# Altium integrated library Actel 42MX.IntLib: 261 symbols (part 1 of 17)
Pins are listed as number, name and electrical type; pins without a type are passive.

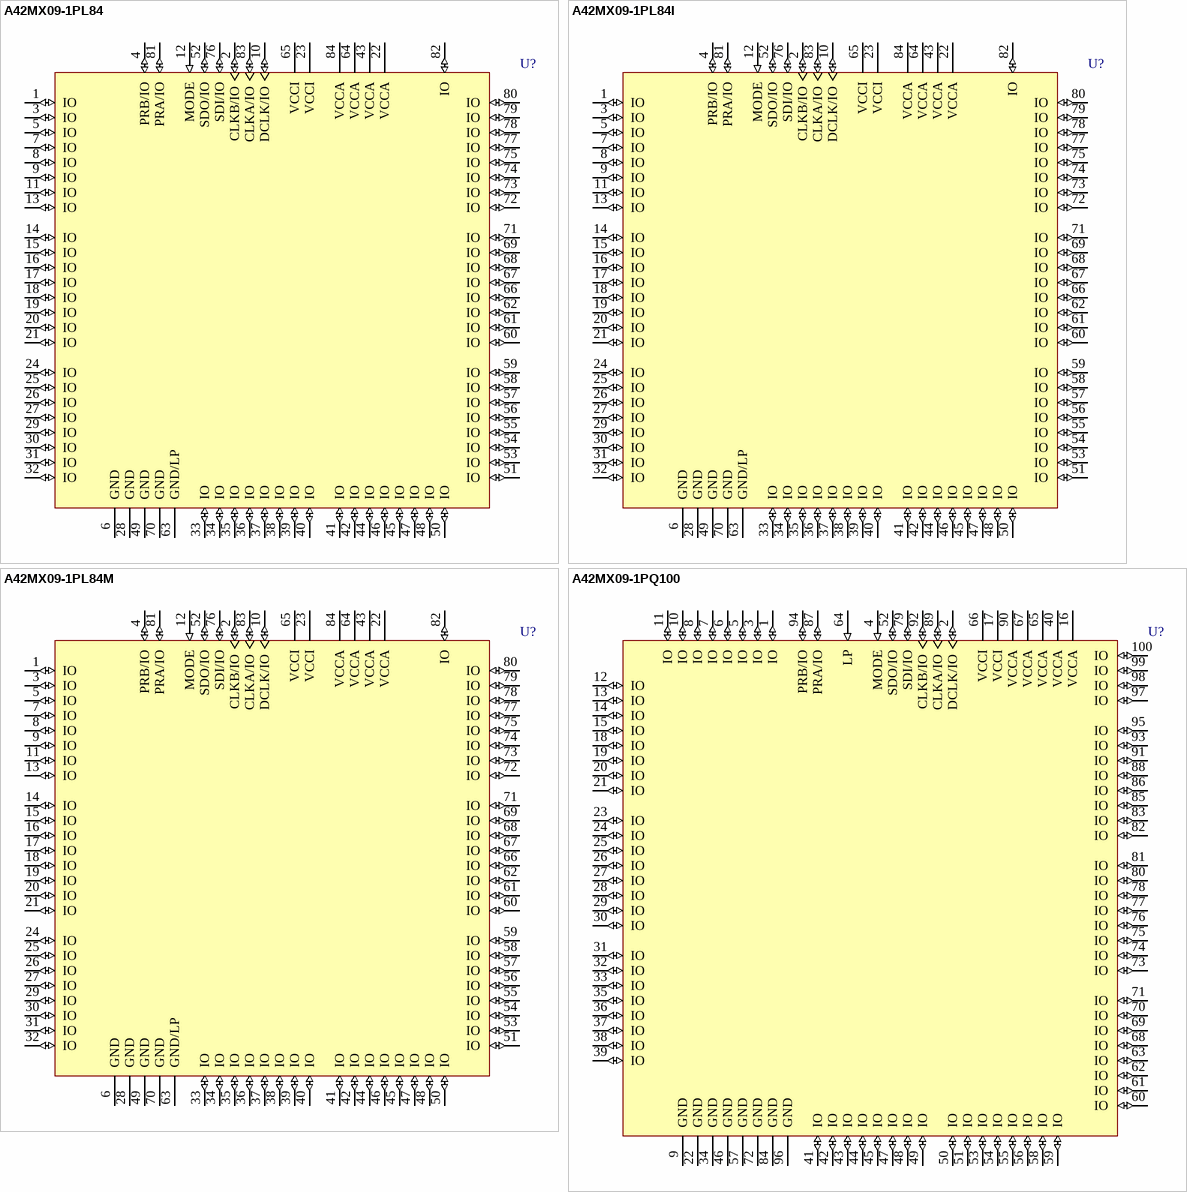
[diagram p0: symbols A42MX09-1PL84 to A42MX09-1PQ100]

## A42MX09-1PL84
designator U?
A42MX09 FPGA, 72 User IOs, 84-Pin PLCC, Speed Grade 1, Commercial Grade; Published: 21-May-2003; LatestRevisionDate: 13-Apr-2006; LatestRevisionNote: IPC-7351 Footprint Added.; DatasheetVersion: v6.0 Jan-2004; PackageVersion: v9.2, Apr-2006; PackageReference: PL84; Publisher: Altium Limited; PackageDescription: 84-Pin Plastic Leaded Chip Carrier (PL84); Code_JEDEC: MS-018-AF; Code_IPC: PLCC-84; ComponentLink1Description: Manufacturer Link; ComponentLink1URL: http://www.actel.com/products/mx/index.html; ComponentLink2Description: Datasheet; ComponentLink2URL: http://www.actel.com/documents/MXDS.pdf
footprint PL84_N (Leaded Chip Carrier, 84-Leads, Body 29.3x29.3mm, Pitch 1.27mm, IPC Medium Density)
footprint PL84_L (Leaded Chip Carrier, 84-Leads, Body 29.3x29.3mm, Pitch 1.27mm, IPC High Density)
footprint PL84_M (Leaded Chip Carrier, 84-Leads, Body 29.3x29.3mm, Pitch 1.27mm, IPC Low Density)
3D model A42MX09-PL84 (84-Pin Plastic Leaded Chip Carrier (PL84))
pins: 1 IO (io), 2 CLKB/IO (io), 3 IO (io), 4 PRB/IO (io), 5 IO (io), 6 GND (power), 7 IO (io), 8 IO (io), 9 IO (io), 10 DCLK/IO (io), 11 IO (io), 12 MODE (in), 13 IO (io), 14 IO (io), 15 IO (io), 16 IO (io), 17 IO (io), 18 IO (io), 19 IO (io), 20 IO (io), 21 IO (io), 22 VCCA (power), 23 VCCI (power), 24 IO (io), 25 IO (io), 26 IO (io), 27 IO (io), 28 GND (power), 29 IO (io), 30 IO (io), 31 IO (io), 32 IO (io), 33 IO (io), 34 IO (io), 35 IO (io), 36 IO (io), 37 IO (io), 38 IO (io), 39 IO (io), 40 IO (io), 41 IO (io), 42 IO (io), 43 VCCA (power), 44 IO (io), 45 IO (io), 46 IO (io), 47 IO (io), 48 IO (io), 49 GND (power), 50 IO (io), 51 IO (io), 52 SDO/IO (io), 53 IO (io), 54 IO (io), 55 IO (io), 56 IO (io), 57 IO (io), 58 IO (io), 59 IO (io), 60 IO (io), 61 IO (io), 62 IO (io), 63 GND/LP (power), 64 VCCA (power), 65 VCCI (power), 66 IO (io), 67 IO (io), 68 IO (io), 69 IO (io), 70 GND (power), 71 IO (io), 72 IO (io), 73 IO (io), 74 IO (io), 75 IO (io), 76 SDI/IO (io), 77 IO (io), 78 IO (io), 79 IO (io), 80 IO (io), 81 PRA/IO (io), 82 IO (io), 83 CLKA/IO (io), 84 VCCA (power)

## A42MX09-1PL84I
designator U?
A42MX09 FPGA, 72 User IOs, 84-Pin PLCC, Speed Grade 1, Industrial Grade; Published: 21-May-2003; LatestRevisionDate: 13-Apr-2006; LatestRevisionNote: IPC-7351 Footprint Added.; DatasheetVersion: v6.0 Jan-2004; PackageVersion: v9.2, Apr-2006; PackageReference: PL84; Publisher: Altium Limited; PackageDescription: 84-Pin Plastic Leaded Chip Carrier (PL84); Code_JEDEC: MS-018-AF; Code_IPC: PLCC-84; ComponentLink1Description: Manufacturer Link; ComponentLink1URL: http://www.actel.com/products/mx/index.html; ComponentLink2Description: Datasheet; ComponentLink2URL: http://www.actel.com/documents/MXDS.pdf
footprint PL84_N (Leaded Chip Carrier, 84-Leads, Body 29.3x29.3mm, Pitch 1.27mm, IPC Medium Density)
footprint PL84_L (Leaded Chip Carrier, 84-Leads, Body 29.3x29.3mm, Pitch 1.27mm, IPC High Density)
footprint PL84_M (Leaded Chip Carrier, 84-Leads, Body 29.3x29.3mm, Pitch 1.27mm, IPC Low Density)
3D model A42MX09-PL84 (84-Pin Plastic Leaded Chip Carrier (PL84))
pins: 1 IO (io), 2 CLKB/IO (io), 3 IO (io), 4 PRB/IO (io), 5 IO (io), 6 GND (power), 7 IO (io), 8 IO (io), 9 IO (io), 10 DCLK/IO (io), 11 IO (io), 12 MODE (in), 13 IO (io), 14 IO (io), 15 IO (io), 16 IO (io), 17 IO (io), 18 IO (io), 19 IO (io), 20 IO (io), 21 IO (io), 22 VCCA (power), 23 VCCI (power), 24 IO (io), 25 IO (io), 26 IO (io), 27 IO (io), 28 GND (power), 29 IO (io), 30 IO (io), 31 IO (io), 32 IO (io), 33 IO (io), 34 IO (io), 35 IO (io), 36 IO (io), 37 IO (io), 38 IO (io), 39 IO (io), 40 IO (io), 41 IO (io), 42 IO (io), 43 VCCA (power), 44 IO (io), 45 IO (io), 46 IO (io), 47 IO (io), 48 IO (io), 49 GND (power), 50 IO (io), 51 IO (io), 52 SDO/IO (io), 53 IO (io), 54 IO (io), 55 IO (io), 56 IO (io), 57 IO (io), 58 IO (io), 59 IO (io), 60 IO (io), 61 IO (io), 62 IO (io), 63 GND/LP (power), 64 VCCA (power), 65 VCCI (power), 66 IO (io), 67 IO (io), 68 IO (io), 69 IO (io), 70 GND (power), 71 IO (io), 72 IO (io), 73 IO (io), 74 IO (io), 75 IO (io), 76 SDI/IO (io), 77 IO (io), 78 IO (io), 79 IO (io), 80 IO (io), 81 PRA/IO (io), 82 IO (io), 83 CLKA/IO (io), 84 VCCA (power)

## A42MX09-1PL84M
designator U?
A42MX09 FPGA, 72 User IOs, 84-Pin PLCC, Speed Grade 1, Military Grade; Published: 21-May-2003; LatestRevisionDate: 13-Apr-2006; LatestRevisionNote: IPC-7351 Footprint Added.; DatasheetVersion: v6.0 Jan-2004; PackageVersion: v9.2, Apr-2006; PackageReference: PL84; Publisher: Altium Limited; PackageDescription: 84-Pin Plastic Leaded Chip Carrier (PL84); Code_JEDEC: MS-018-AF; Code_IPC: PLCC-84; ComponentLink1Description: Manufacturer Link; ComponentLink1URL: http://www.actel.com/products/mx/index.html; ComponentLink2Description: Datasheet; ComponentLink2URL: http://www.actel.com/documents/MXDS.pdf
footprint PL84_N (Leaded Chip Carrier, 84-Leads, Body 29.3x29.3mm, Pitch 1.27mm, IPC Medium Density)
footprint PL84_L (Leaded Chip Carrier, 84-Leads, Body 29.3x29.3mm, Pitch 1.27mm, IPC High Density)
footprint PL84_M (Leaded Chip Carrier, 84-Leads, Body 29.3x29.3mm, Pitch 1.27mm, IPC Low Density)
3D model A42MX09-PL84 (84-Pin Plastic Leaded Chip Carrier (PL84))
pins: 1 IO (io), 2 CLKB/IO (io), 3 IO (io), 4 PRB/IO (io), 5 IO (io), 6 GND (power), 7 IO (io), 8 IO (io), 9 IO (io), 10 DCLK/IO (io), 11 IO (io), 12 MODE (in), 13 IO (io), 14 IO (io), 15 IO (io), 16 IO (io), 17 IO (io), 18 IO (io), 19 IO (io), 20 IO (io), 21 IO (io), 22 VCCA (power), 23 VCCI (power), 24 IO (io), 25 IO (io), 26 IO (io), 27 IO (io), 28 GND (power), 29 IO (io), 30 IO (io), 31 IO (io), 32 IO (io), 33 IO (io), 34 IO (io), 35 IO (io), 36 IO (io), 37 IO (io), 38 IO (io), 39 IO (io), 40 IO (io), 41 IO (io), 42 IO (io), 43 VCCA (power), 44 IO (io), 45 IO (io), 46 IO (io), 47 IO (io), 48 IO (io), 49 GND (power), 50 IO (io), 51 IO (io), 52 SDO/IO (io), 53 IO (io), 54 IO (io), 55 IO (io), 56 IO (io), 57 IO (io), 58 IO (io), 59 IO (io), 60 IO (io), 61 IO (io), 62 IO (io), 63 GND/LP (power), 64 VCCA (power), 65 VCCI (power), 66 IO (io), 67 IO (io), 68 IO (io), 69 IO (io), 70 GND (power), 71 IO (io), 72 IO (io), 73 IO (io), 74 IO (io), 75 IO (io), 76 SDI/IO (io), 77 IO (io), 78 IO (io), 79 IO (io), 80 IO (io), 81 PRA/IO (io), 82 IO (io), 83 CLKA/IO (io), 84 VCCA (power)

## A42MX09-1PQ100
designator U?
A42MX09 FPGA, 83 User IOs, 100-Pin PQFP, Speed Grade 1, Commercial Grade; Published: 21-May-2003; LatestRevisionDate: 13-Apr-2006; LatestRevisionNote: IPC-7351 Footprint Added.; DatasheetVersion: v6.0 Jan-2004; PackageVersion: v9.2, Apr-2006; PackageReference: PQ100; Publisher: Altium Limited; PackageDescription: 100-Pin Plastic Quad Flat Pack Rectangular Package (PQ100); Code_JEDEC: MS-022-GC-1; Code_IPC: QFP65P1720X2320-100; ComponentLink1Description: Manufacturer Link; ComponentLink1URL: http://www.actel.com/products/mx/index.html; ComponentLink2Description: Datasheet; ComponentLink2URL: http://www.actel.com/documents/MXDS.pdf
footprint PQ100_N (QFP, 100-Leads, Body 20x14mm, Pitch 0.65mm, IPC Medium Density)
footprint PQ100_L (QFP, 100-Leads, Body 20x14mm, Pitch 0.65mm, IPC High Density)
footprint PQ100_M (QFP, 100-Leads, Body 20x14mm, Pitch 0.65mm, IPC Low Density)
3D model A42MX09-PQ100 (100-Pin Plastic Quad Flat Pack Rectangular Package (PQ100))
pins: 1 IO (io), 2 DCLK/IO (io), 3 IO (io), 4 MODE (in), 5 IO (io), 6 IO (io), 7 IO (io), 8 IO (io), 9 GND (power), 10 IO (io), 11 IO (io), 12 IO (io), 13 IO (io), 14 IO (io), 15 IO (io), 16 VCCA (power), 17 VCCI (power), 18 IO (io), 19 IO (io), 20 IO (io), 21 IO (io), 22 GND (power), 23 IO (io), 24 IO (io), 25 IO (io), 26 IO (io), 27 IO (io), 28 IO (io), 29 IO (io), 30 IO (io), 31 IO (io), 32 IO (io), 33 IO (io), 34 GND (power), 35 IO (io), 36 IO (io), 37 IO (io), 38 IO (io), 39 IO (io), 40 VCCA (power), 41 IO (io), 42 IO (io), 43 IO (io), 44 IO (io), 45 IO (io), 46 GND (power), 47 IO (io), 48 IO (io), 49 IO (io), 50 IO (io), 51 IO (io), 52 SDO/IO (io), 53 IO (io), 54 IO (io), 55 IO (io), 56 IO (io), 57 GND (power), 58 IO (io), 59 IO (io), 60 IO (io), 61 IO (io), 62 IO (io), 63 IO (io), 64 LP (in), 65 VCCA (power), 66 VCCI (power), 67 VCCA (power), 68 IO (io), 69 IO (io), 70 IO (io), 71 IO (io), 72 GND (power), 73 IO (io), 74 IO (io), 75 IO (io), 76 IO (io), 77 IO (io), 78 IO (io), 79 SDI/IO (io), 80 IO (io), 81 IO (io), 82 IO (io), 83 IO (io), 84 GND (power), 85 IO (io), 86 IO (io), 87 PRA/IO (io), 88 IO (io), 89 CLKA/IO (io), 90 VCCA (power), 91 IO (io), 92 CLKB/IO (io), 93 IO (io), 94 PRB/IO (io), 95 IO (io), 96 GND (power), 97 IO (io), 98 IO (io), 99 IO (io), 100 IO (io)

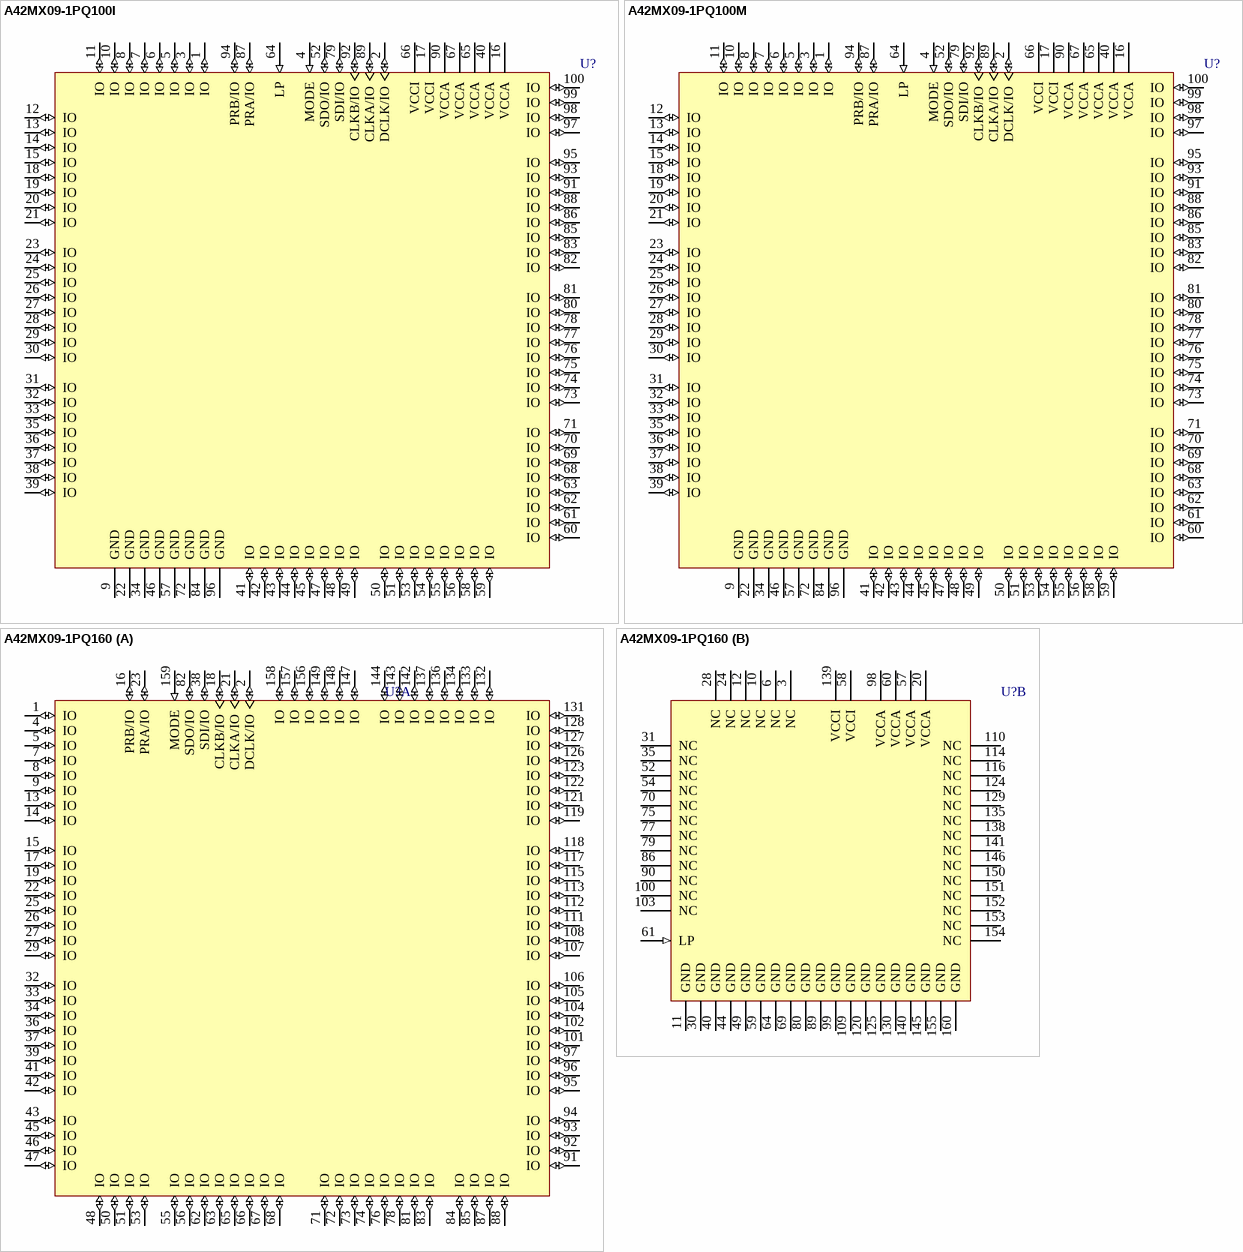
[diagram p1: symbols A42MX09-1PQ100I to A42MX09-1PQ160]

## A42MX09-1PQ100I
designator U?
A42MX09 FPGA, 83 User IOs, 100-Pin PQFP, Speed Grade 1, Industrial Grade; Published: 21-May-2003; LatestRevisionDate: 13-Apr-2006; LatestRevisionNote: IPC-7351 Footprint Added.; DatasheetVersion: v6.0 Jan-2004; PackageVersion: v9.2, Apr-2006; PackageReference: PQ100; Publisher: Altium Limited; PackageDescription: 100-Pin Plastic Quad Flat Pack Rectangular Package (PQ100); Code_JEDEC: MS-022-GC-1; Code_IPC: QFP65P1720X2320-100; ComponentLink1Description: Manufacturer Link; ComponentLink1URL: http://www.actel.com/products/mx/index.html; ComponentLink2Description: Datasheet; ComponentLink2URL: http://www.actel.com/documents/MXDS.pdf
footprint PQ100_N (QFP, 100-Leads, Body 20x14mm, Pitch 0.65mm, IPC Medium Density)
footprint PQ100_L (QFP, 100-Leads, Body 20x14mm, Pitch 0.65mm, IPC High Density)
footprint PQ100_M (QFP, 100-Leads, Body 20x14mm, Pitch 0.65mm, IPC Low Density)
3D model A42MX09-PQ100 (100-Pin Plastic Quad Flat Pack Rectangular Package (PQ100))
pins: 1 IO (io), 2 DCLK/IO (io), 3 IO (io), 4 MODE (in), 5 IO (io), 6 IO (io), 7 IO (io), 8 IO (io), 9 GND (power), 10 IO (io), 11 IO (io), 12 IO (io), 13 IO (io), 14 IO (io), 15 IO (io), 16 VCCA (power), 17 VCCI (power), 18 IO (io), 19 IO (io), 20 IO (io), 21 IO (io), 22 GND (power), 23 IO (io), 24 IO (io), 25 IO (io), 26 IO (io), 27 IO (io), 28 IO (io), 29 IO (io), 30 IO (io), 31 IO (io), 32 IO (io), 33 IO (io), 34 GND (power), 35 IO (io), 36 IO (io), 37 IO (io), 38 IO (io), 39 IO (io), 40 VCCA (power), 41 IO (io), 42 IO (io), 43 IO (io), 44 IO (io), 45 IO (io), 46 GND (power), 47 IO (io), 48 IO (io), 49 IO (io), 50 IO (io), 51 IO (io), 52 SDO/IO (io), 53 IO (io), 54 IO (io), 55 IO (io), 56 IO (io), 57 GND (power), 58 IO (io), 59 IO (io), 60 IO (io), 61 IO (io), 62 IO (io), 63 IO (io), 64 LP (in), 65 VCCA (power), 66 VCCI (power), 67 VCCA (power), 68 IO (io), 69 IO (io), 70 IO (io), 71 IO (io), 72 GND (power), 73 IO (io), 74 IO (io), 75 IO (io), 76 IO (io), 77 IO (io), 78 IO (io), 79 SDI/IO (io), 80 IO (io), 81 IO (io), 82 IO (io), 83 IO (io), 84 GND (power), 85 IO (io), 86 IO (io), 87 PRA/IO (io), 88 IO (io), 89 CLKA/IO (io), 90 VCCA (power), 91 IO (io), 92 CLKB/IO (io), 93 IO (io), 94 PRB/IO (io), 95 IO (io), 96 GND (power), 97 IO (io), 98 IO (io), 99 IO (io), 100 IO (io)

## A42MX09-1PQ100M
designator U?
A42MX09 FPGA, 83 User IOs, 100-Pin PQFP, Speed Grade 1, Military Grade; Published: 21-May-2003; LatestRevisionDate: 13-Apr-2006; LatestRevisionNote: IPC-7351 Footprint Added.; DatasheetVersion: v6.0 Jan-2004; PackageVersion: v9.2, Apr-2006; PackageReference: PQ100; Publisher: Altium Limited; PackageDescription: 100-Pin Plastic Quad Flat Pack Rectangular Package (PQ100); Code_JEDEC: MS-022-GC-1; Code_IPC: QFP65P1720X2320-100; ComponentLink1Description: Manufacturer Link; ComponentLink1URL: http://www.actel.com/products/mx/index.html; ComponentLink2Description: Datasheet; ComponentLink2URL: http://www.actel.com/documents/MXDS.pdf
footprint PQ100_N (QFP, 100-Leads, Body 20x14mm, Pitch 0.65mm, IPC Medium Density)
footprint PQ100_L (QFP, 100-Leads, Body 20x14mm, Pitch 0.65mm, IPC High Density)
footprint PQ100_M (QFP, 100-Leads, Body 20x14mm, Pitch 0.65mm, IPC Low Density)
3D model A42MX09-PQ100 (100-Pin Plastic Quad Flat Pack Rectangular Package (PQ100))
pins: 1 IO (io), 2 DCLK/IO (io), 3 IO (io), 4 MODE (in), 5 IO (io), 6 IO (io), 7 IO (io), 8 IO (io), 9 GND (power), 10 IO (io), 11 IO (io), 12 IO (io), 13 IO (io), 14 IO (io), 15 IO (io), 16 VCCA (power), 17 VCCI (power), 18 IO (io), 19 IO (io), 20 IO (io), 21 IO (io), 22 GND (power), 23 IO (io), 24 IO (io), 25 IO (io), 26 IO (io), 27 IO (io), 28 IO (io), 29 IO (io), 30 IO (io), 31 IO (io), 32 IO (io), 33 IO (io), 34 GND (power), 35 IO (io), 36 IO (io), 37 IO (io), 38 IO (io), 39 IO (io), 40 VCCA (power), 41 IO (io), 42 IO (io), 43 IO (io), 44 IO (io), 45 IO (io), 46 GND (power), 47 IO (io), 48 IO (io), 49 IO (io), 50 IO (io), 51 IO (io), 52 SDO/IO (io), 53 IO (io), 54 IO (io), 55 IO (io), 56 IO (io), 57 GND (power), 58 IO (io), 59 IO (io), 60 IO (io), 61 IO (io), 62 IO (io), 63 IO (io), 64 LP (in), 65 VCCA (power), 66 VCCI (power), 67 VCCA (power), 68 IO (io), 69 IO (io), 70 IO (io), 71 IO (io), 72 GND (power), 73 IO (io), 74 IO (io), 75 IO (io), 76 IO (io), 77 IO (io), 78 IO (io), 79 SDI/IO (io), 80 IO (io), 81 IO (io), 82 IO (io), 83 IO (io), 84 GND (power), 85 IO (io), 86 IO (io), 87 PRA/IO (io), 88 IO (io), 89 CLKA/IO (io), 90 VCCA (power), 91 IO (io), 92 CLKB/IO (io), 93 IO (io), 94 PRB/IO (io), 95 IO (io), 96 GND (power), 97 IO (io), 98 IO (io), 99 IO (io), 100 IO (io)

## A42MX09-1PQ160
designator U?
A42MX09 FPGA, 101 User IOs, 160-Pin PQFP, Speed Grade 1, Commercial Grade; Published: 21-May-2003; LatestRevisionDate: 13-Apr-2006; LatestRevisionNote: IPC-7351 Footprint Added.; DatasheetVersion: v6.0 Jan-2004; PackageVersion: v9.2, Apr-2006; PackageReference: PQ160; Publisher: Altium Limited; PackageDescription: 160-Pin Plastic Quad Flat Pack (PQ160); Code_JEDEC: MS-022-DD-1; Code_IPC: QFP65P3120X3120-160; ComponentLink1Description: Manufacturer Link; ComponentLink1URL: http://www.actel.com/products/mx/index.html; ComponentLink2Description: Datasheet; ComponentLink2URL: http://www.actel.com/documents/MXDS.pdf
footprint PQ160_N (QFP, 160-Leads, Body 28 x 28mm, Pitch 0.65mm, IPC Medium Density)
footprint PQ160_L (QFP, 160-Leads, Body 28 x 28mm, Pitch 0.65mm, IPC High Density)
footprint PQ160_M (QFP, 160-Leads, Body 28 x 28mm, Pitch 0.65mm, IPC Low Density)
3D model A42MX09-PQ160 (160-Pin Plastic Quad Flat Pack (PQ160))
part A pins: 1 IO (io), 2 DCLK/IO (io), 4 IO (io), 5 IO (io), 7 IO (io), 8 IO (io), 9 IO (io), 13 IO (io), 14 IO (io), 15 IO (io), 16 PRB/IO (io), 17 IO (io), 18 CLKB/IO (io), 19 IO (io), 21 CLKA/IO (io), 22 IO (io), 23 PRA/IO (io), 25 IO (io), 26 IO (io), 27 IO (io), 29 IO (io), 32 IO (io), 33 IO (io), 34 IO (io), 36 IO (io), 37 IO (io), 38 SDI/IO (io), 39 IO (io), 41 IO (io), 42 IO (io), 43 IO (io), 45 IO (io), 46 IO (io), 47 IO (io), 48 IO (io), 50 IO (io), 51 IO (io), 53 IO (io), 55 IO (io), 56 IO (io), 62 IO (io), 63 IO (io), 65 IO (io), 66 IO (io), 67 IO (io), 68 IO (io), 71 IO (io), 72 IO (io), 73 IO (io), 74 IO (io), 76 IO (io), 78 IO (io), 81 IO (io), 82 SDO/IO (io), 83 IO (io), 84 IO (io), 85 IO (io), 87 IO (io), 88 IO (io), 91 IO (io), 92 IO (io), 93 IO (io), 94 IO (io), 95 IO (io), 96 IO (io), 97 IO (io), 101 IO (io), 102 IO (io), 104 IO (io), 105 IO (io), 106 IO (io), 107 IO (io), 108 IO (io), 111 IO (io), 112 IO (io), 113 IO (io), 115 IO (io), 117 IO (io), 118 IO (io), 119 IO (io), 121 IO (io), 122 IO (io), 123 IO (io), 126 IO (io), 127 IO (io), 128 IO (io), 131 IO (io), 132 IO (io), 133 IO (io), 134 IO (io), 136 IO (io), 137 IO (io), 142 IO (io), 143 IO (io), 144 IO (io), 147 IO (io), 148 IO (io), 149 IO (io), 156 IO (io), 157 IO (io), 158 IO (io), 159 MODE (in)
part B pins: 3 NC, 6 NC, 10 NC, 11 GND (power), 12 NC, 20 VCCA (power), 24 NC, 28 NC, 30 GND (power), 31 NC, 35 NC, 40 GND (power), 44 GND (power), 49 GND (power), 52 NC, 54 NC, 57 VCCA (power), 58 VCCI (power), 59 GND (power), 60 VCCA (power), 61 LP (in), 64 GND (power), 69 GND (power), 70 NC, 75 NC, 77 NC, 79 NC, 80 GND (power), 86 NC, 89 GND (power), 90 NC, 98 VCCA (power), 99 GND (power), 100 NC, 103 NC, 109 GND (power), 110 NC, 114 NC, 116 NC, 120 GND (power), 124 NC, 125 GND (power), 129 NC, 130 GND (power), 135 NC, 138 NC, 139 VCCI (power), 140 GND (power), 141 NC, 145 GND (power), 146 NC, 150 NC, 151 NC, 152 NC, 153 NC, 154 NC, 155 GND (power), 160 GND (power)

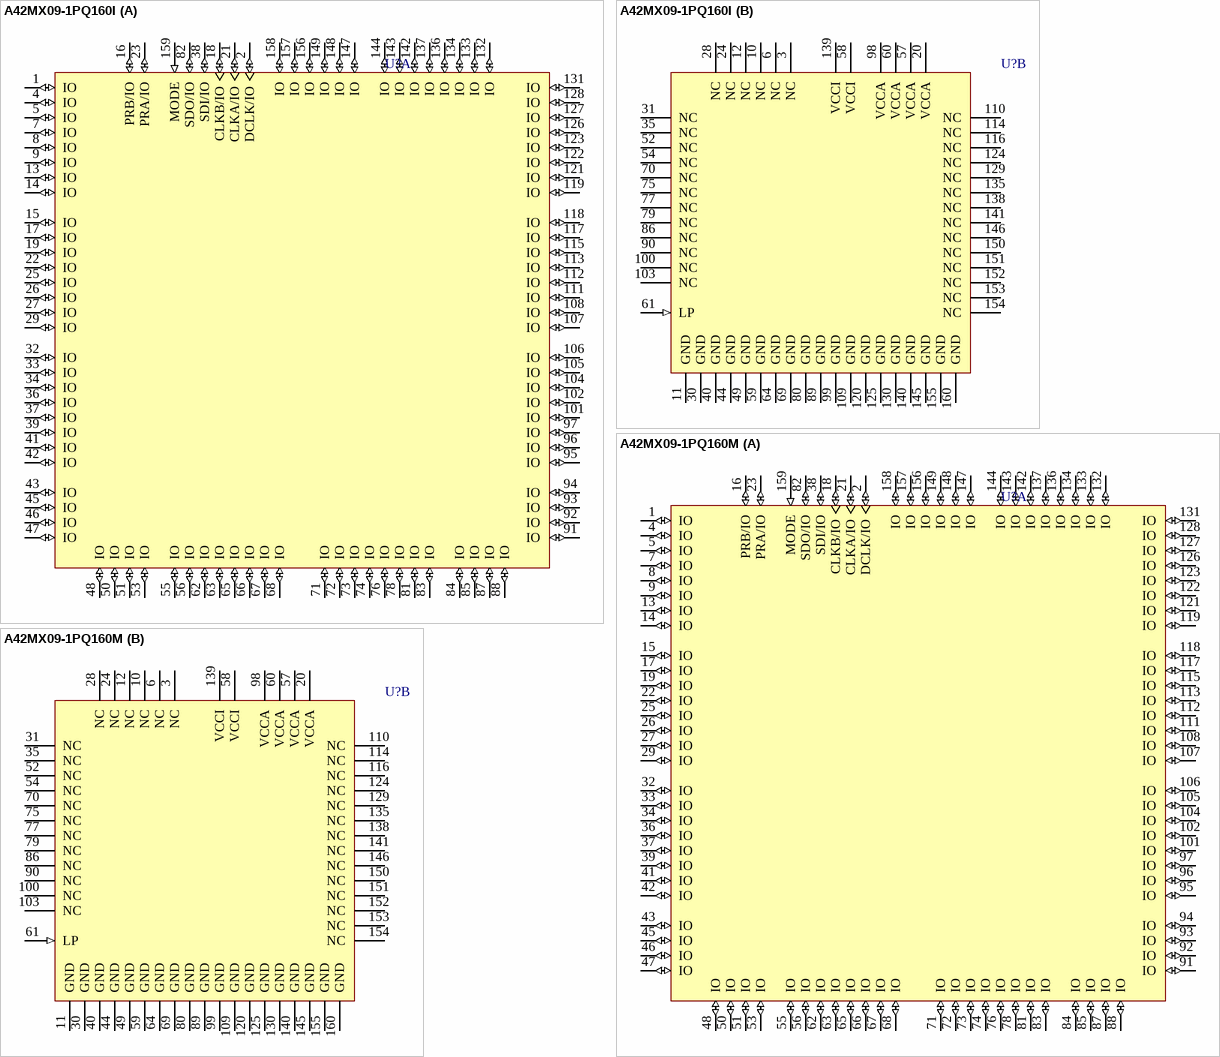
[diagram p2: symbols A42MX09-1PQ160I to A42MX09-1PQ160M]

## A42MX09-1PQ160I
designator U?
A42MX09 FPGA, 101 User IOs, 160-Pin PQFP, Speed Grade 1, Industrial Grade; Published: 21-May-2003; LatestRevisionDate: 13-Apr-2006; LatestRevisionNote: IPC-7351 Footprint Added.; DatasheetVersion: v6.0 Jan-2004; PackageVersion: v9.2, Apr-2006; PackageReference: PQ160; Publisher: Altium Limited; PackageDescription: 160-Pin Plastic Quad Flat Pack (PQ160); Code_JEDEC: MS-022-DD-1; Code_IPC: QFP65P3120X3120-160; ComponentLink1Description: Manufacturer Link; ComponentLink1URL: http://www.actel.com/products/mx/index.html; ComponentLink2Description: Datasheet; ComponentLink2URL: http://www.actel.com/documents/MXDS.pdf
footprint PQ160_N (QFP, 160-Leads, Body 28 x 28mm, Pitch 0.65mm, IPC Medium Density)
footprint PQ160_L (QFP, 160-Leads, Body 28 x 28mm, Pitch 0.65mm, IPC High Density)
footprint PQ160_M (QFP, 160-Leads, Body 28 x 28mm, Pitch 0.65mm, IPC Low Density)
3D model A42MX09-PQ160 (160-Pin Plastic Quad Flat Pack (PQ160))
part A pins: 1 IO (io), 2 DCLK/IO (io), 4 IO (io), 5 IO (io), 7 IO (io), 8 IO (io), 9 IO (io), 13 IO (io), 14 IO (io), 15 IO (io), 16 PRB/IO (io), 17 IO (io), 18 CLKB/IO (io), 19 IO (io), 21 CLKA/IO (io), 22 IO (io), 23 PRA/IO (io), 25 IO (io), 26 IO (io), 27 IO (io), 29 IO (io), 32 IO (io), 33 IO (io), 34 IO (io), 36 IO (io), 37 IO (io), 38 SDI/IO (io), 39 IO (io), 41 IO (io), 42 IO (io), 43 IO (io), 45 IO (io), 46 IO (io), 47 IO (io), 48 IO (io), 50 IO (io), 51 IO (io), 53 IO (io), 55 IO (io), 56 IO (io), 62 IO (io), 63 IO (io), 65 IO (io), 66 IO (io), 67 IO (io), 68 IO (io), 71 IO (io), 72 IO (io), 73 IO (io), 74 IO (io), 76 IO (io), 78 IO (io), 81 IO (io), 82 SDO/IO (io), 83 IO (io), 84 IO (io), 85 IO (io), 87 IO (io), 88 IO (io), 91 IO (io), 92 IO (io), 93 IO (io), 94 IO (io), 95 IO (io), 96 IO (io), 97 IO (io), 101 IO (io), 102 IO (io), 104 IO (io), 105 IO (io), 106 IO (io), 107 IO (io), 108 IO (io), 111 IO (io), 112 IO (io), 113 IO (io), 115 IO (io), 117 IO (io), 118 IO (io), 119 IO (io), 121 IO (io), 122 IO (io), 123 IO (io), 126 IO (io), 127 IO (io), 128 IO (io), 131 IO (io), 132 IO (io), 133 IO (io), 134 IO (io), 136 IO (io), 137 IO (io), 142 IO (io), 143 IO (io), 144 IO (io), 147 IO (io), 148 IO (io), 149 IO (io), 156 IO (io), 157 IO (io), 158 IO (io), 159 MODE (in)
part B pins: 3 NC, 6 NC, 10 NC, 11 GND (power), 12 NC, 20 VCCA (power), 24 NC, 28 NC, 30 GND (power), 31 NC, 35 NC, 40 GND (power), 44 GND (power), 49 GND (power), 52 NC, 54 NC, 57 VCCA (power), 58 VCCI (power), 59 GND (power), 60 VCCA (power), 61 LP (in), 64 GND (power), 69 GND (power), 70 NC, 75 NC, 77 NC, 79 NC, 80 GND (power), 86 NC, 89 GND (power), 90 NC, 98 VCCA (power), 99 GND (power), 100 NC, 103 NC, 109 GND (power), 110 NC, 114 NC, 116 NC, 120 GND (power), 124 NC, 125 GND (power), 129 NC, 130 GND (power), 135 NC, 138 NC, 139 VCCI (power), 140 GND (power), 141 NC, 145 GND (power), 146 NC, 150 NC, 151 NC, 152 NC, 153 NC, 154 NC, 155 GND (power), 160 GND (power)

## A42MX09-1PQ160M
designator U?
A42MX09 FPGA, 101 User IOs, 160-Pin PQFP, Speed Grade 1, Military Grade; Published: 21-May-2003; LatestRevisionDate: 13-Apr-2006; LatestRevisionNote: IPC-7351 Footprint Added.; DatasheetVersion: v6.0 Jan-2004; PackageVersion: v9.2, Apr-2006; PackageReference: PQ160; Publisher: Altium Limited; PackageDescription: 160-Pin Plastic Quad Flat Pack (PQ160); Code_JEDEC: MS-022-DD-1; Code_IPC: QFP65P3120X3120-160; ComponentLink1Description: Manufacturer Link; ComponentLink1URL: http://www.actel.com/products/mx/index.html; ComponentLink2Description: Datasheet; ComponentLink2URL: http://www.actel.com/documents/MXDS.pdf
footprint PQ160_N (QFP, 160-Leads, Body 28 x 28mm, Pitch 0.65mm, IPC Medium Density)
footprint PQ160_L (QFP, 160-Leads, Body 28 x 28mm, Pitch 0.65mm, IPC High Density)
footprint PQ160_M (QFP, 160-Leads, Body 28 x 28mm, Pitch 0.65mm, IPC Low Density)
3D model A42MX09-PQ160 (160-Pin Plastic Quad Flat Pack (PQ160))
part A pins: 1 IO (io), 2 DCLK/IO (io), 4 IO (io), 5 IO (io), 7 IO (io), 8 IO (io), 9 IO (io), 13 IO (io), 14 IO (io), 15 IO (io), 16 PRB/IO (io), 17 IO (io), 18 CLKB/IO (io), 19 IO (io), 21 CLKA/IO (io), 22 IO (io), 23 PRA/IO (io), 25 IO (io), 26 IO (io), 27 IO (io), 29 IO (io), 32 IO (io), 33 IO (io), 34 IO (io), 36 IO (io), 37 IO (io), 38 SDI/IO (io), 39 IO (io), 41 IO (io), 42 IO (io), 43 IO (io), 45 IO (io), 46 IO (io), 47 IO (io), 48 IO (io), 50 IO (io), 51 IO (io), 53 IO (io), 55 IO (io), 56 IO (io), 62 IO (io), 63 IO (io), 65 IO (io), 66 IO (io), 67 IO (io), 68 IO (io), 71 IO (io), 72 IO (io), 73 IO (io), 74 IO (io), 76 IO (io), 78 IO (io), 81 IO (io), 82 SDO/IO (io), 83 IO (io), 84 IO (io), 85 IO (io), 87 IO (io), 88 IO (io), 91 IO (io), 92 IO (io), 93 IO (io), 94 IO (io), 95 IO (io), 96 IO (io), 97 IO (io), 101 IO (io), 102 IO (io), 104 IO (io), 105 IO (io), 106 IO (io), 107 IO (io), 108 IO (io), 111 IO (io), 112 IO (io), 113 IO (io), 115 IO (io), 117 IO (io), 118 IO (io), 119 IO (io), 121 IO (io), 122 IO (io), 123 IO (io), 126 IO (io), 127 IO (io), 128 IO (io), 131 IO (io), 132 IO (io), 133 IO (io), 134 IO (io), 136 IO (io), 137 IO (io), 142 IO (io), 143 IO (io), 144 IO (io), 147 IO (io), 148 IO (io), 149 IO (io), 156 IO (io), 157 IO (io), 158 IO (io), 159 MODE (in)
part B pins: 3 NC, 6 NC, 10 NC, 11 GND (power), 12 NC, 20 VCCA (power), 24 NC, 28 NC, 30 GND (power), 31 NC, 35 NC, 40 GND (power), 44 GND (power), 49 GND (power), 52 NC, 54 NC, 57 VCCA (power), 58 VCCI (power), 59 GND (power), 60 VCCA (power), 61 LP (in), 64 GND (power), 69 GND (power), 70 NC, 75 NC, 77 NC, 79 NC, 80 GND (power), 86 NC, 89 GND (power), 90 NC, 98 VCCA (power), 99 GND (power), 100 NC, 103 NC, 109 GND (power), 110 NC, 114 NC, 116 NC, 120 GND (power), 124 NC, 125 GND (power), 129 NC, 130 GND (power), 135 NC, 138 NC, 139 VCCI (power), 140 GND (power), 141 NC, 145 GND (power), 146 NC, 150 NC, 151 NC, 152 NC, 153 NC, 154 NC, 155 GND (power), 160 GND (power)

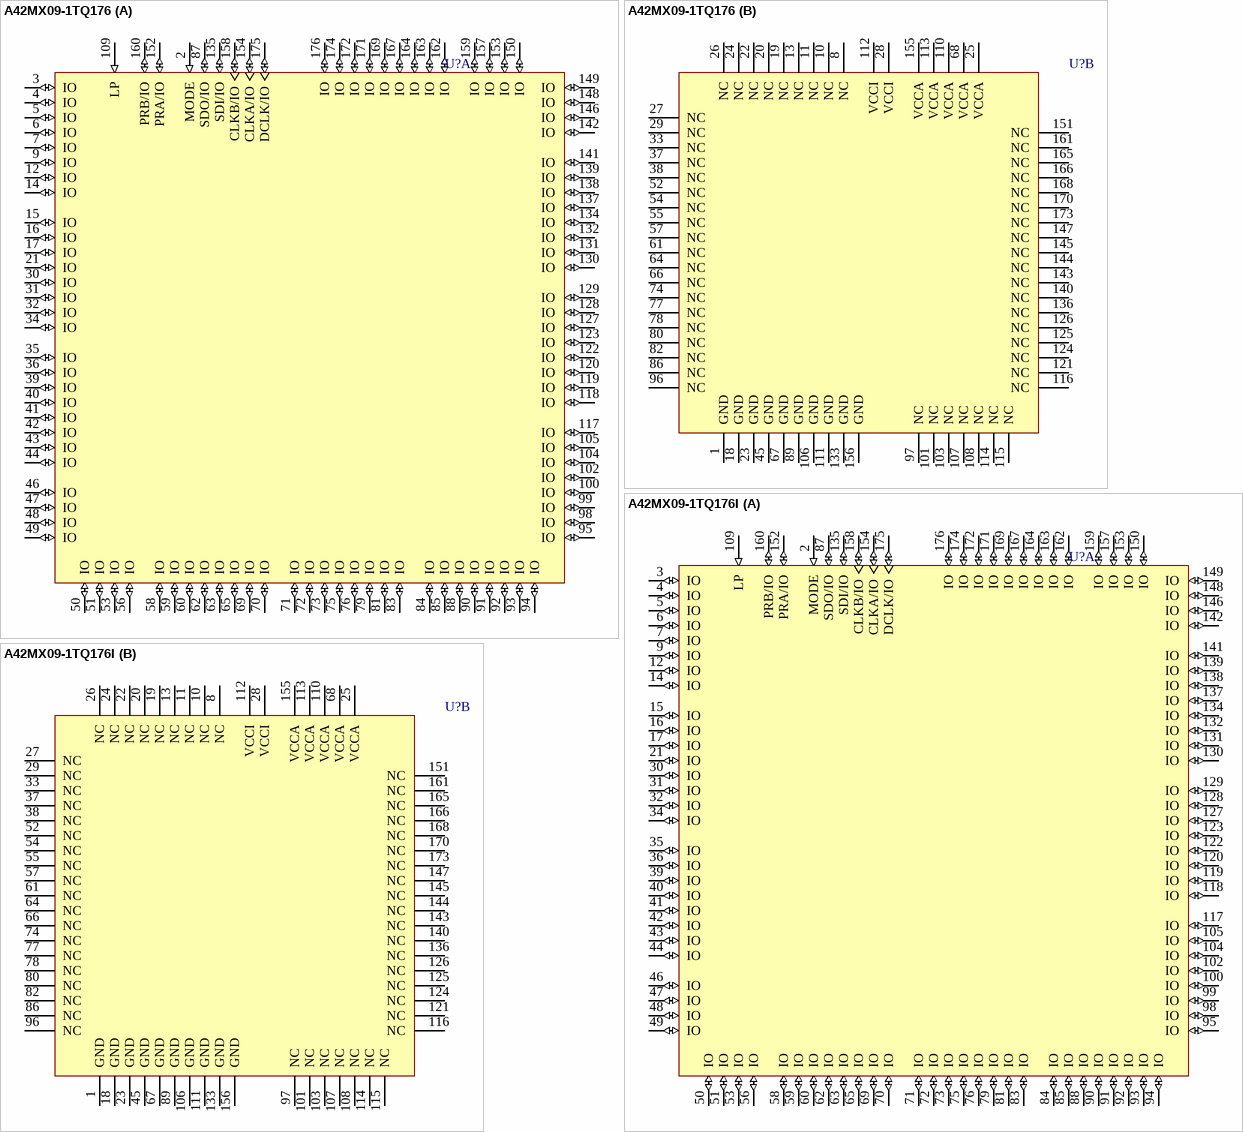
[diagram p3: symbols A42MX09-1TQ176 to A42MX09-1TQ176I]

## A42MX09-1TQ176
designator U?
A42MX09 FPGA, 104 User IOs, 176-Pin TQFP, Speed Grade 1, Commercial Grade; Published: 21-May-2003; LatestRevisionDate: 13-Apr-2006; LatestRevisionNote: IPC-7351 Footprint Added.; DatasheetVersion: v6.0 Jan-2004; PackageVersion: v9.2, Apr-2006; PackageReference: TQ176; Publisher: Altium Limited; PackageDescription: 176-Pin Plastic Quad Flat Pack (TQ176); Code_JEDEC: MS-026-BCA; ComponentLink1Description: Manufacturer Link; ComponentLink1URL: http://www.actel.com/products/mx/index.html; ComponentLink2Description: Datasheet; ComponentLink2URL: http://www.actel.com/documents/MXDS.pdf
footprint TQ176_N (Thin QFP, 176-Leads, Body 24x24mm, Pitch 0.5mm, IPC Medium Density)
footprint TQ176_L (Thin QFP, 176-Leads, Body 24x24mm, Pitch 0.5mm, IPC High Density)
footprint TQ176_M (Thin QFP, 176-Leads, Body 24x24mm, Pitch 0.5mm, IPC Low Density)
3D model A42MX09-TQ176 (176-Pin Plastic Quad Flat Pack (TQ176))
part A pins: 2 MODE (in), 3 IO (io), 4 IO (io), 5 IO (io), 6 IO (io), 7 IO (io), 9 IO (io), 12 IO (io), 14 IO (io), 15 IO (io), 16 IO (io), 17 IO (io), 21 IO (io), 30 IO (io), 31 IO (io), 32 IO (io), 34 IO (io), 35 IO (io), 36 IO (io), 39 IO (io), 40 IO (io), 41 IO (io), 42 IO (io), 43 IO (io), 44 IO (io), 46 IO (io), 47 IO (io), 48 IO (io), 49 IO (io), 50 IO (io), 51 IO (io), 53 IO (io), 56 IO (io), 58 IO (io), 59 IO (io), 60 IO (io), 62 IO (io), 63 IO (io), 65 IO (io), 69 IO (io), 70 IO (io), 71 IO (io), 72 IO (io), 73 IO (io), 75 IO (io), 76 IO (io), 79 IO (io), 81 IO (io), 83 IO (io), 84 IO (io), 85 IO (io), 87 SDO/IO (io), 88 IO (io), 90 IO (io), 91 IO (io), 92 IO (io), 93 IO (io), 94 IO (io), 95 IO (io), 98 IO (io), 99 IO (io), 100 IO (io), 102 IO (io), 104 IO (io), 105 IO (io), 109 LP (in), 117 IO (io), 118 IO (io), 119 IO (io), 120 IO (io), 122 IO (io), 123 IO (io), 127 IO (io), 128 IO (io), 129 IO (io), 130 IO (io), 131 IO (io), 132 IO (io), 134 IO (io), 135 SDI/IO (io), 137 IO (io), 138 IO (io), 139 IO (io), 141 IO (io), 142 IO (io), 146 IO (io), 148 IO (io), 149 IO (io), 150 IO (io), 152 PRA/IO (io), 153 IO (io), 154 CLKA/IO (io), 157 IO (io), 158 CLKB/IO (io), 159 IO (io), 160 PRB/IO (io), 162 IO (io), 163 IO (io), 164 IO (io), 167 IO (io), 169 IO (io), 171 IO (io), 172 IO (io), 174 IO (io), 175 DCLK/IO (io), 176 IO (io)
part B pins: 1 GND (power), 8 NC, 10 NC, 11 NC, 13 NC, 18 GND (power), 19 NC, 20 NC, 22 NC, 23 GND (power), 24 NC, 25 VCCA (power), 26 NC, 27 NC, 28 VCCI (power), 29 NC, 33 NC, 37 NC, 38 NC, 45 GND (power), 52 NC, 54 NC, 55 NC, 57 NC, 61 NC, 64 NC, 66 NC, 67 GND (power), 68 VCCA (power), 74 NC, 77 NC, 78 NC, 80 NC, 82 NC, 86 NC, 89 GND (power), 96 NC, 97 NC, 101 NC, 103 NC, 106 GND (power), 107 NC, 108 NC, 110 VCCA (power), 111 GND (power), 112 VCCI (power), 113 VCCA (power), 114 NC, 115 NC, 116 NC, 121 NC, 124 NC, 125 NC, 126 NC, 133 GND (power), 136 NC, 140 NC, 143 NC, 144 NC, 145 NC, 147 NC, 151 NC, 155 VCCA (power), 156 GND (power), 161 NC, 165 NC, 166 NC, 168 NC, 170 NC, 173 NC

## A42MX09-1TQ176I
designator U?
A42MX09 FPGA, 104 User IOs, 176-Pin TQFP, Speed Grade 1, Industrial Grade; Published: 21-May-2003; LatestRevisionDate: 13-Apr-2006; LatestRevisionNote: IPC-7351 Footprint Added.; DatasheetVersion: v6.0 Jan-2004; PackageVersion: v9.2, Apr-2006; PackageReference: TQ176; Publisher: Altium Limited; PackageDescription: 176-Pin Plastic Quad Flat Pack (TQ176); Code_JEDEC: MS-026-BCA; ComponentLink1Description: Manufacturer Link; ComponentLink1URL: http://www.actel.com/products/mx/index.html; ComponentLink2Description: Datasheet; ComponentLink2URL: http://www.actel.com/documents/MXDS.pdf
footprint TQ176_N (Thin QFP, 176-Leads, Body 24x24mm, Pitch 0.5mm, IPC Medium Density)
footprint TQ176_L (Thin QFP, 176-Leads, Body 24x24mm, Pitch 0.5mm, IPC High Density)
footprint TQ176_M (Thin QFP, 176-Leads, Body 24x24mm, Pitch 0.5mm, IPC Low Density)
3D model A42MX09-TQ176 (176-Pin Plastic Quad Flat Pack (TQ176))
part A pins: 2 MODE (in), 3 IO (io), 4 IO (io), 5 IO (io), 6 IO (io), 7 IO (io), 9 IO (io), 12 IO (io), 14 IO (io), 15 IO (io), 16 IO (io), 17 IO (io), 21 IO (io), 30 IO (io), 31 IO (io), 32 IO (io), 34 IO (io), 35 IO (io), 36 IO (io), 39 IO (io), 40 IO (io), 41 IO (io), 42 IO (io), 43 IO (io), 44 IO (io), 46 IO (io), 47 IO (io), 48 IO (io), 49 IO (io), 50 IO (io), 51 IO (io), 53 IO (io), 56 IO (io), 58 IO (io), 59 IO (io), 60 IO (io), 62 IO (io), 63 IO (io), 65 IO (io), 69 IO (io), 70 IO (io), 71 IO (io), 72 IO (io), 73 IO (io), 75 IO (io), 76 IO (io), 79 IO (io), 81 IO (io), 83 IO (io), 84 IO (io), 85 IO (io), 87 SDO/IO (io), 88 IO (io), 90 IO (io), 91 IO (io), 92 IO (io), 93 IO (io), 94 IO (io), 95 IO (io), 98 IO (io), 99 IO (io), 100 IO (io), 102 IO (io), 104 IO (io), 105 IO (io), 109 LP (in), 117 IO (io), 118 IO (io), 119 IO (io), 120 IO (io), 122 IO (io), 123 IO (io), 127 IO (io), 128 IO (io), 129 IO (io), 130 IO (io), 131 IO (io), 132 IO (io), 134 IO (io), 135 SDI/IO (io), 137 IO (io), 138 IO (io), 139 IO (io), 141 IO (io), 142 IO (io), 146 IO (io), 148 IO (io), 149 IO (io), 150 IO (io), 152 PRA/IO (io), 153 IO (io), 154 CLKA/IO (io), 157 IO (io), 158 CLKB/IO (io), 159 IO (io), 160 PRB/IO (io), 162 IO (io), 163 IO (io), 164 IO (io), 167 IO (io), 169 IO (io), 171 IO (io), 172 IO (io), 174 IO (io), 175 DCLK/IO (io), 176 IO (io)
part B pins: 1 GND (power), 8 NC, 10 NC, 11 NC, 13 NC, 18 GND (power), 19 NC, 20 NC, 22 NC, 23 GND (power), 24 NC, 25 VCCA (power), 26 NC, 27 NC, 28 VCCI (power), 29 NC, 33 NC, 37 NC, 38 NC, 45 GND (power), 52 NC, 54 NC, 55 NC, 57 NC, 61 NC, 64 NC, 66 NC, 67 GND (power), 68 VCCA (power), 74 NC, 77 NC, 78 NC, 80 NC, 82 NC, 86 NC, 89 GND (power), 96 NC, 97 NC, 101 NC, 103 NC, 106 GND (power), 107 NC, 108 NC, 110 VCCA (power), 111 GND (power), 112 VCCI (power), 113 VCCA (power), 114 NC, 115 NC, 116 NC, 121 NC, 124 NC, 125 NC, 126 NC, 133 GND (power), 136 NC, 140 NC, 143 NC, 144 NC, 145 NC, 147 NC, 151 NC, 155 VCCA (power), 156 GND (power), 161 NC, 165 NC, 166 NC, 168 NC, 170 NC, 173 NC

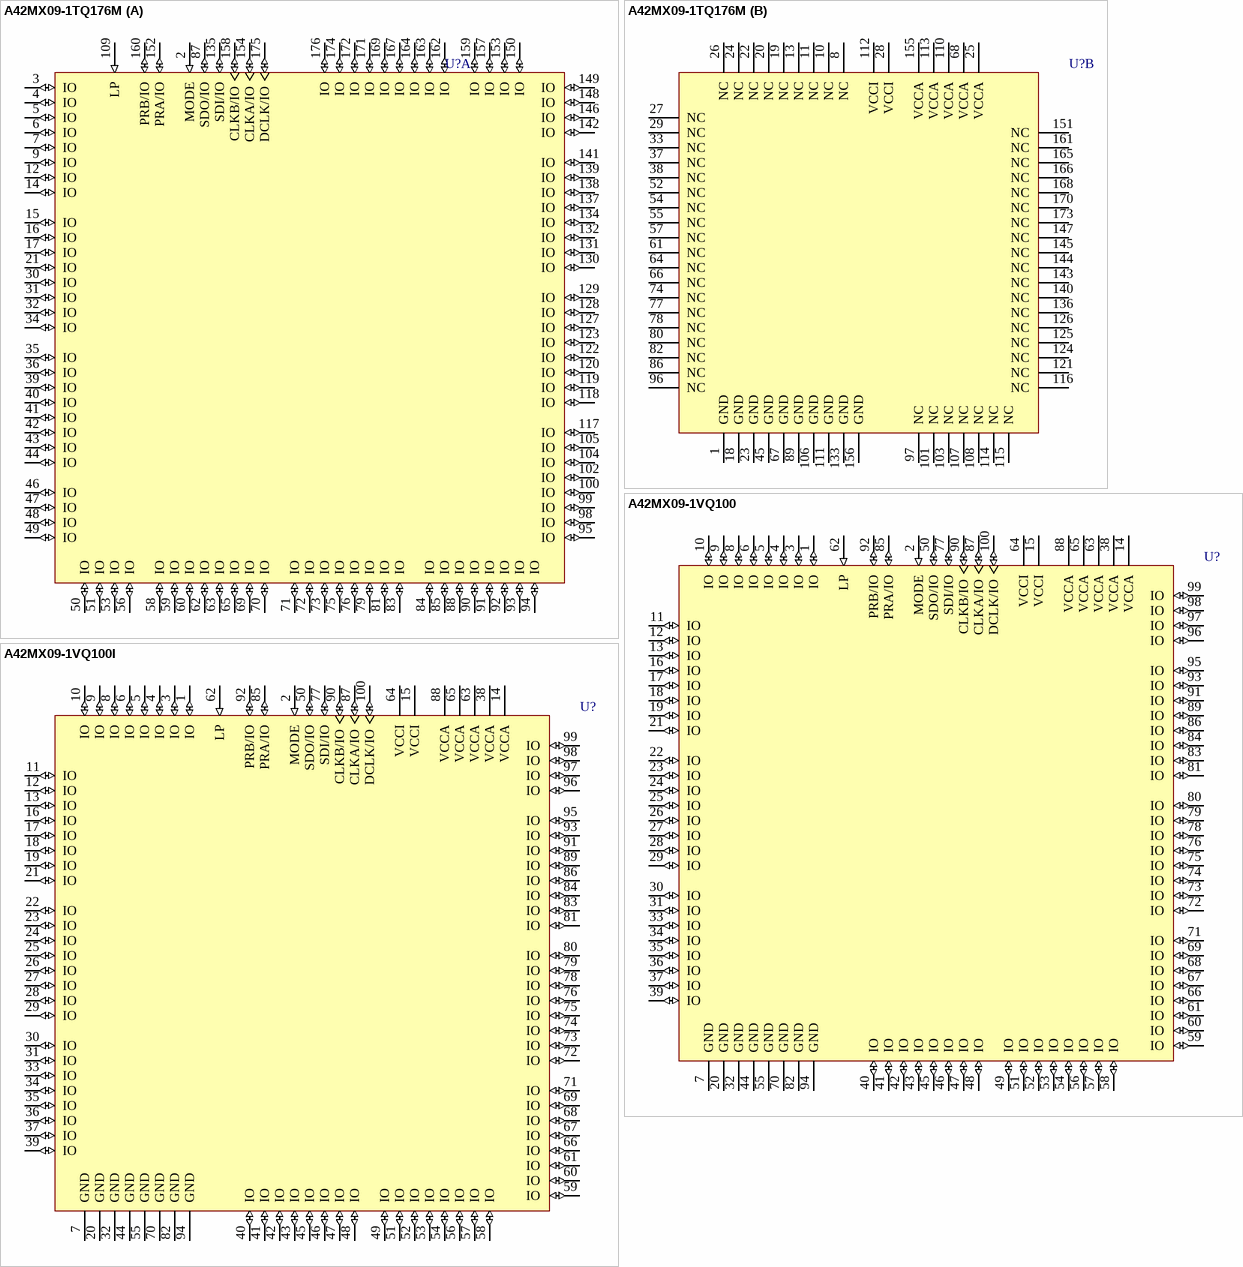
[diagram p4: symbols A42MX09-1TQ176M to A42MX09-1VQ100I]

## A42MX09-1TQ176M
designator U?
A42MX09 FPGA, 104 User IOs, 176-Pin TQFP, Speed Grade 1, Military Grade; Published: 21-May-2003; LatestRevisionDate: 13-Apr-2006; LatestRevisionNote: IPC-7351 Footprint Added.; DatasheetVersion: v6.0 Jan-2004; PackageVersion: v9.2, Apr-2006; PackageReference: TQ176; Publisher: Altium Limited; PackageDescription: 176-Pin Plastic Quad Flat Pack (TQ176); Code_JEDEC: MS-026-BCA; ComponentLink1Description: Manufacturer Link; ComponentLink1URL: http://www.actel.com/products/mx/index.html; ComponentLink2Description: Datasheet; ComponentLink2URL: http://www.actel.com/documents/MXDS.pdf
footprint TQ176_N (Thin QFP, 176-Leads, Body 24x24mm, Pitch 0.5mm, IPC Medium Density)
footprint TQ176_L (Thin QFP, 176-Leads, Body 24x24mm, Pitch 0.5mm, IPC High Density)
footprint TQ176_M (Thin QFP, 176-Leads, Body 24x24mm, Pitch 0.5mm, IPC Low Density)
3D model A42MX09-TQ176 (176-Pin Plastic Quad Flat Pack (TQ176))
part A pins: 2 MODE (in), 3 IO (io), 4 IO (io), 5 IO (io), 6 IO (io), 7 IO (io), 9 IO (io), 12 IO (io), 14 IO (io), 15 IO (io), 16 IO (io), 17 IO (io), 21 IO (io), 30 IO (io), 31 IO (io), 32 IO (io), 34 IO (io), 35 IO (io), 36 IO (io), 39 IO (io), 40 IO (io), 41 IO (io), 42 IO (io), 43 IO (io), 44 IO (io), 46 IO (io), 47 IO (io), 48 IO (io), 49 IO (io), 50 IO (io), 51 IO (io), 53 IO (io), 56 IO (io), 58 IO (io), 59 IO (io), 60 IO (io), 62 IO (io), 63 IO (io), 65 IO (io), 69 IO (io), 70 IO (io), 71 IO (io), 72 IO (io), 73 IO (io), 75 IO (io), 76 IO (io), 79 IO (io), 81 IO (io), 83 IO (io), 84 IO (io), 85 IO (io), 87 SDO/IO (io), 88 IO (io), 90 IO (io), 91 IO (io), 92 IO (io), 93 IO (io), 94 IO (io), 95 IO (io), 98 IO (io), 99 IO (io), 100 IO (io), 102 IO (io), 104 IO (io), 105 IO (io), 109 LP (in), 117 IO (io), 118 IO (io), 119 IO (io), 120 IO (io), 122 IO (io), 123 IO (io), 127 IO (io), 128 IO (io), 129 IO (io), 130 IO (io), 131 IO (io), 132 IO (io), 134 IO (io), 135 SDI/IO (io), 137 IO (io), 138 IO (io), 139 IO (io), 141 IO (io), 142 IO (io), 146 IO (io), 148 IO (io), 149 IO (io), 150 IO (io), 152 PRA/IO (io), 153 IO (io), 154 CLKA/IO (io), 157 IO (io), 158 CLKB/IO (io), 159 IO (io), 160 PRB/IO (io), 162 IO (io), 163 IO (io), 164 IO (io), 167 IO (io), 169 IO (io), 171 IO (io), 172 IO (io), 174 IO (io), 175 DCLK/IO (io), 176 IO (io)
part B pins: 1 GND (power), 8 NC, 10 NC, 11 NC, 13 NC, 18 GND (power), 19 NC, 20 NC, 22 NC, 23 GND (power), 24 NC, 25 VCCA (power), 26 NC, 27 NC, 28 VCCI (power), 29 NC, 33 NC, 37 NC, 38 NC, 45 GND (power), 52 NC, 54 NC, 55 NC, 57 NC, 61 NC, 64 NC, 66 NC, 67 GND (power), 68 VCCA (power), 74 NC, 77 NC, 78 NC, 80 NC, 82 NC, 86 NC, 89 GND (power), 96 NC, 97 NC, 101 NC, 103 NC, 106 GND (power), 107 NC, 108 NC, 110 VCCA (power), 111 GND (power), 112 VCCI (power), 113 VCCA (power), 114 NC, 115 NC, 116 NC, 121 NC, 124 NC, 125 NC, 126 NC, 133 GND (power), 136 NC, 140 NC, 143 NC, 144 NC, 145 NC, 147 NC, 151 NC, 155 VCCA (power), 156 GND (power), 161 NC, 165 NC, 166 NC, 168 NC, 170 NC, 173 NC

## A42MX09-1VQ100
designator U?
A42MX09 FPGA, 83 User IOs, 100-Pin VQFP, Speed Grade 1, Commercial Grade; Published: 21-May-2003; LatestRevisionDate: 13-Apr-2006; LatestRevisionNote: IPC-7351 Footprint Added.; DatasheetVersion: v6.0 Jan-2004; PackageVersion: v9.2, Apr-2006; PackageReference: VQ100; Publisher: Altium Limited; PackageDescription: 100-Pin Plastic Quad Flat Pack (VQ100); Code_JEDEC: MS-036-AED; ComponentLink1Description: Manufacturer Link; ComponentLink1URL: http://www.actel.com/products/mx/index.html; ComponentLink2Description: Datasheet; ComponentLink2URL: http://www.actel.com/documents/MXDS.pdf
footprint VQ100_N (Thin QFP, 100-Leads, Body 14x14mm, Pitch 0.5mm, IPC Medium Density)
footprint VQ100_L (Thin QFP, 100-Leads, Body 14x14mm, Pitch 0.5mm, IPC High Density)
footprint VQ100_M (Thin QFP, 100-Leads, Body 14x14mm, Pitch 0.5mm, IPC Low Density)
3D model A42MX09-VQ100 (100-Pin Plastic Quad Flat Pack (VQ100))
pins: 1 IO (io), 2 MODE (in), 3 IO (io), 4 IO (io), 5 IO (io), 6 IO (io), 7 GND (power), 8 IO (io), 9 IO (io), 10 IO (io), 11 IO (io), 12 IO (io), 13 IO (io), 14 VCCA (power), 15 VCCI (power), 16 IO (io), 17 IO (io), 18 IO (io), 19 IO (io), 20 GND (power), 21 IO (io), 22 IO (io), 23 IO (io), 24 IO (io), 25 IO (io), 26 IO (io), 27 IO (io), 28 IO (io), 29 IO (io), 30 IO (io), 31 IO (io), 32 GND (power), 33 IO (io), 34 IO (io), 35 IO (io), 36 IO (io), 37 IO (io), 38 VCCA (power), 39 IO (io), 40 IO (io), 41 IO (io), 42 IO (io), 43 IO (io), 44 GND (power), 45 IO (io), 46 IO (io), 47 IO (io), 48 IO (io), 49 IO (io), 50 SDO/IO (io), 51 IO (io), 52 IO (io), 53 IO (io), 54 IO (io), 55 GND (power), 56 IO (io), 57 IO (io), 58 IO (io), 59 IO (io), 60 IO (io), 61 IO (io), 62 LP (in), 63 VCCA (power), 64 VCCI (power), 65 VCCA (power), 66 IO (io), 67 IO (io), 68 IO (io), 69 IO (io), 70 GND (power), 71 IO (io), 72 IO (io), 73 IO (io), 74 IO (io), 75 IO (io), 76 IO (io), 77 SDI/IO (io), 78 IO (io), 79 IO (io), 80 IO (io), 81 IO (io), 82 GND (power), 83 IO (io), 84 IO (io), 85 PRA/IO (io), 86 IO (io), 87 CLKA/IO (io), 88 VCCA (power), 89 IO (io), 90 CLKB/IO (io), 91 IO (io), 92 PRB/IO (io), 93 IO (io), 94 GND (power), 95 IO (io), 96 IO (io), 97 IO (io), 98 IO (io), 99 IO (io), 100 DCLK/IO (io)

## A42MX09-1VQ100I
designator U?
A42MX09 FPGA, 83 User IOs, 100-Pin VQFP, Speed Grade 1, Industrial Grade; Published: 21-May-2003; LatestRevisionDate: 13-Apr-2006; LatestRevisionNote: IPC-7351 Footprint Added.; DatasheetVersion: v6.0 Jan-2004; PackageVersion: v9.2, Apr-2006; PackageReference: VQ100; Publisher: Altium Limited; PackageDescription: 100-Pin Plastic Quad Flat Pack (VQ100); Code_JEDEC: MS-036-AED; ComponentLink1Description: Manufacturer Link; ComponentLink1URL: http://www.actel.com/products/mx/index.html; ComponentLink2Description: Datasheet; ComponentLink2URL: http://www.actel.com/documents/MXDS.pdf
footprint VQ100_N (Thin QFP, 100-Leads, Body 14x14mm, Pitch 0.5mm, IPC Medium Density)
footprint VQ100_L (Thin QFP, 100-Leads, Body 14x14mm, Pitch 0.5mm, IPC High Density)
footprint VQ100_M (Thin QFP, 100-Leads, Body 14x14mm, Pitch 0.5mm, IPC Low Density)
3D model A42MX09-VQ100 (100-Pin Plastic Quad Flat Pack (VQ100))
pins: 1 IO (io), 2 MODE (in), 3 IO (io), 4 IO (io), 5 IO (io), 6 IO (io), 7 GND (power), 8 IO (io), 9 IO (io), 10 IO (io), 11 IO (io), 12 IO (io), 13 IO (io), 14 VCCA (power), 15 VCCI (power), 16 IO (io), 17 IO (io), 18 IO (io), 19 IO (io), 20 GND (power), 21 IO (io), 22 IO (io), 23 IO (io), 24 IO (io), 25 IO (io), 26 IO (io), 27 IO (io), 28 IO (io), 29 IO (io), 30 IO (io), 31 IO (io), 32 GND (power), 33 IO (io), 34 IO (io), 35 IO (io), 36 IO (io), 37 IO (io), 38 VCCA (power), 39 IO (io), 40 IO (io), 41 IO (io), 42 IO (io), 43 IO (io), 44 GND (power), 45 IO (io), 46 IO (io), 47 IO (io), 48 IO (io), 49 IO (io), 50 SDO/IO (io), 51 IO (io), 52 IO (io), 53 IO (io), 54 IO (io), 55 GND (power), 56 IO (io), 57 IO (io), 58 IO (io), 59 IO (io), 60 IO (io), 61 IO (io), 62 LP (in), 63 VCCA (power), 64 VCCI (power), 65 VCCA (power), 66 IO (io), 67 IO (io), 68 IO (io), 69 IO (io), 70 GND (power), 71 IO (io), 72 IO (io), 73 IO (io), 74 IO (io), 75 IO (io), 76 IO (io), 77 SDI/IO (io), 78 IO (io), 79 IO (io), 80 IO (io), 81 IO (io), 82 GND (power), 83 IO (io), 84 IO (io), 85 PRA/IO (io), 86 IO (io), 87 CLKA/IO (io), 88 VCCA (power), 89 IO (io), 90 CLKB/IO (io), 91 IO (io), 92 PRB/IO (io), 93 IO (io), 94 GND (power), 95 IO (io), 96 IO (io), 97 IO (io), 98 IO (io), 99 IO (io), 100 DCLK/IO (io)

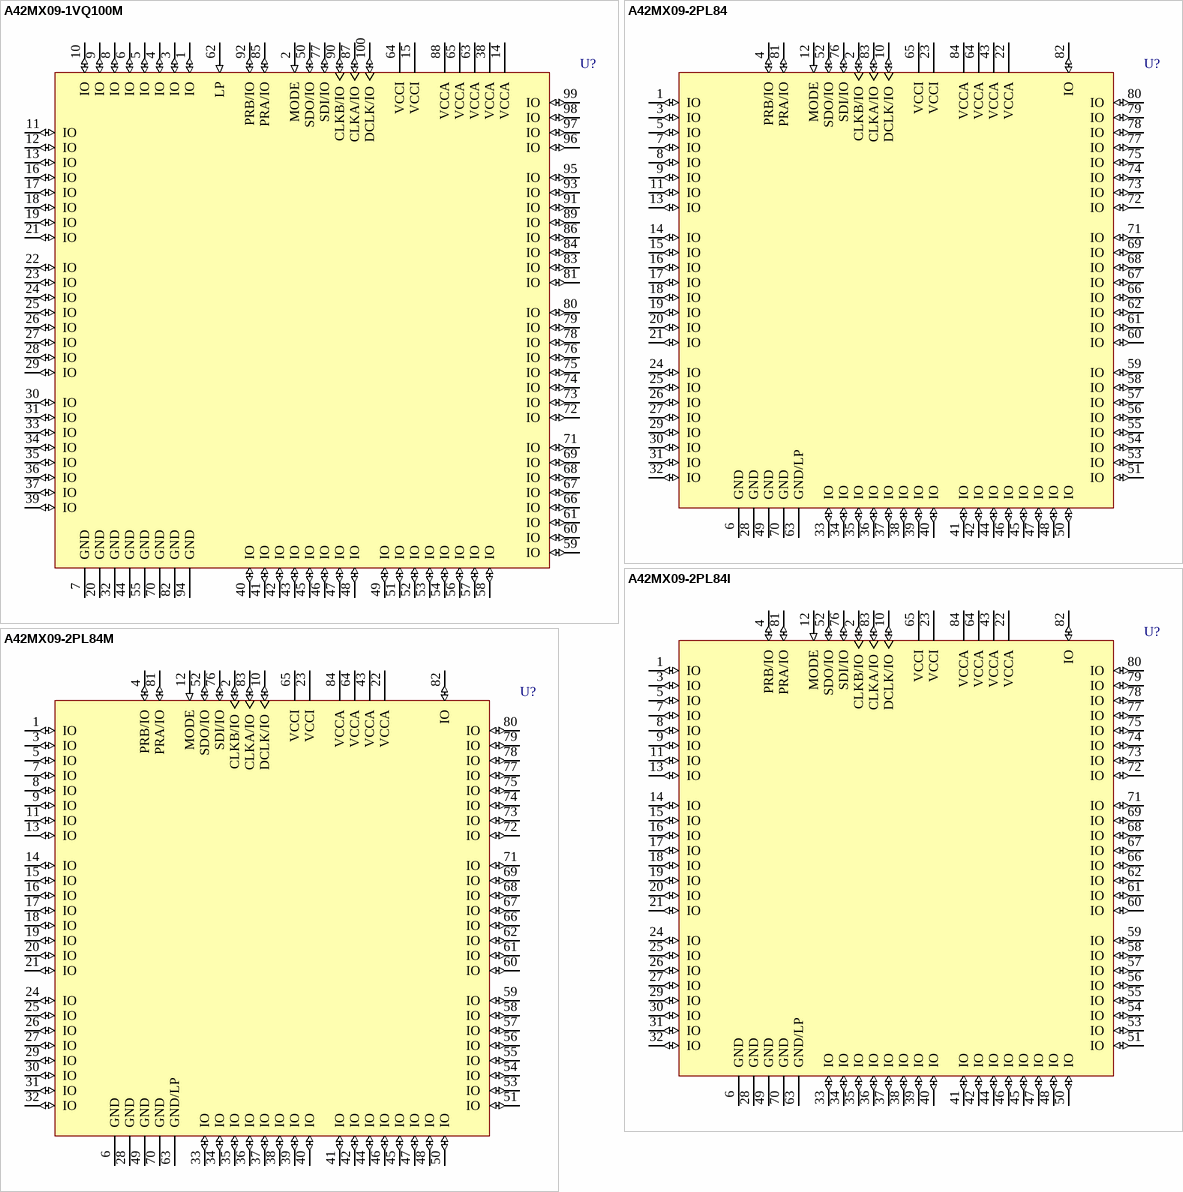
[diagram p5: symbols A42MX09-1VQ100M to A42MX09-2PL84M]

## A42MX09-1VQ100M
designator U?
A42MX09 FPGA, 83 User IOs, 100-Pin VQFP, Speed Grade 1, Military Grade; Published: 21-May-2003; LatestRevisionDate: 13-Apr-2006; LatestRevisionNote: IPC-7351 Footprint Added.; DatasheetVersion: v6.0 Jan-2004; PackageVersion: v9.2, Apr-2006; PackageReference: VQ100; Publisher: Altium Limited; PackageDescription: 100-Pin Plastic Quad Flat Pack (VQ100); Code_JEDEC: MS-036-AED; ComponentLink1Description: Manufacturer Link; ComponentLink1URL: http://www.actel.com/products/mx/index.html; ComponentLink2Description: Datasheet; ComponentLink2URL: http://www.actel.com/documents/MXDS.pdf
footprint VQ100_N (Thin QFP, 100-Leads, Body 14x14mm, Pitch 0.5mm, IPC Medium Density)
footprint VQ100_L (Thin QFP, 100-Leads, Body 14x14mm, Pitch 0.5mm, IPC High Density)
footprint VQ100_M (Thin QFP, 100-Leads, Body 14x14mm, Pitch 0.5mm, IPC Low Density)
3D model A42MX09-VQ100 (100-Pin Plastic Quad Flat Pack (VQ100))
pins: 1 IO (io), 2 MODE (in), 3 IO (io), 4 IO (io), 5 IO (io), 6 IO (io), 7 GND (power), 8 IO (io), 9 IO (io), 10 IO (io), 11 IO (io), 12 IO (io), 13 IO (io), 14 VCCA (power), 15 VCCI (power), 16 IO (io), 17 IO (io), 18 IO (io), 19 IO (io), 20 GND (power), 21 IO (io), 22 IO (io), 23 IO (io), 24 IO (io), 25 IO (io), 26 IO (io), 27 IO (io), 28 IO (io), 29 IO (io), 30 IO (io), 31 IO (io), 32 GND (power), 33 IO (io), 34 IO (io), 35 IO (io), 36 IO (io), 37 IO (io), 38 VCCA (power), 39 IO (io), 40 IO (io), 41 IO (io), 42 IO (io), 43 IO (io), 44 GND (power), 45 IO (io), 46 IO (io), 47 IO (io), 48 IO (io), 49 IO (io), 50 SDO/IO (io), 51 IO (io), 52 IO (io), 53 IO (io), 54 IO (io), 55 GND (power), 56 IO (io), 57 IO (io), 58 IO (io), 59 IO (io), 60 IO (io), 61 IO (io), 62 LP (in), 63 VCCA (power), 64 VCCI (power), 65 VCCA (power), 66 IO (io), 67 IO (io), 68 IO (io), 69 IO (io), 70 GND (power), 71 IO (io), 72 IO (io), 73 IO (io), 74 IO (io), 75 IO (io), 76 IO (io), 77 SDI/IO (io), 78 IO (io), 79 IO (io), 80 IO (io), 81 IO (io), 82 GND (power), 83 IO (io), 84 IO (io), 85 PRA/IO (io), 86 IO (io), 87 CLKA/IO (io), 88 VCCA (power), 89 IO (io), 90 CLKB/IO (io), 91 IO (io), 92 PRB/IO (io), 93 IO (io), 94 GND (power), 95 IO (io), 96 IO (io), 97 IO (io), 98 IO (io), 99 IO (io), 100 DCLK/IO (io)

## A42MX09-2PL84
designator U?
A42MX09 FPGA, 72 User IOs, 84-Pin PLCC, Speed Grade 2, Commercial Grade; Published: 21-May-2003; LatestRevisionDate: 13-Apr-2006; LatestRevisionNote: IPC-7351 Footprint Added.; DatasheetVersion: v6.0 Jan-2004; PackageVersion: v9.2, Apr-2006; PackageReference: PL84; Publisher: Altium Limited; PackageDescription: 84-Pin Plastic Leaded Chip Carrier (PL84); Code_JEDEC: MS-018-AF; Code_IPC: PLCC-84; ComponentLink1Description: Manufacturer Link; ComponentLink1URL: http://www.actel.com/products/mx/index.html; ComponentLink2Description: Datasheet; ComponentLink2URL: http://www.actel.com/documents/MXDS.pdf
footprint PL84_N (Leaded Chip Carrier, 84-Leads, Body 29.3x29.3mm, Pitch 1.27mm, IPC Medium Density)
footprint PL84_L (Leaded Chip Carrier, 84-Leads, Body 29.3x29.3mm, Pitch 1.27mm, IPC High Density)
footprint PL84_M (Leaded Chip Carrier, 84-Leads, Body 29.3x29.3mm, Pitch 1.27mm, IPC Low Density)
3D model A42MX09-PL84 (84-Pin Plastic Leaded Chip Carrier (PL84))
pins: 1 IO (io), 2 CLKB/IO (io), 3 IO (io), 4 PRB/IO (io), 5 IO (io), 6 GND (power), 7 IO (io), 8 IO (io), 9 IO (io), 10 DCLK/IO (io), 11 IO (io), 12 MODE (in), 13 IO (io), 14 IO (io), 15 IO (io), 16 IO (io), 17 IO (io), 18 IO (io), 19 IO (io), 20 IO (io), 21 IO (io), 22 VCCA (power), 23 VCCI (power), 24 IO (io), 25 IO (io), 26 IO (io), 27 IO (io), 28 GND (power), 29 IO (io), 30 IO (io), 31 IO (io), 32 IO (io), 33 IO (io), 34 IO (io), 35 IO (io), 36 IO (io), 37 IO (io), 38 IO (io), 39 IO (io), 40 IO (io), 41 IO (io), 42 IO (io), 43 VCCA (power), 44 IO (io), 45 IO (io), 46 IO (io), 47 IO (io), 48 IO (io), 49 GND (power), 50 IO (io), 51 IO (io), 52 SDO/IO (io), 53 IO (io), 54 IO (io), 55 IO (io), 56 IO (io), 57 IO (io), 58 IO (io), 59 IO (io), 60 IO (io), 61 IO (io), 62 IO (io), 63 GND/LP (power), 64 VCCA (power), 65 VCCI (power), 66 IO (io), 67 IO (io), 68 IO (io), 69 IO (io), 70 GND (power), 71 IO (io), 72 IO (io), 73 IO (io), 74 IO (io), 75 IO (io), 76 SDI/IO (io), 77 IO (io), 78 IO (io), 79 IO (io), 80 IO (io), 81 PRA/IO (io), 82 IO (io), 83 CLKA/IO (io), 84 VCCA (power)

## A42MX09-2PL84I
designator U?
A42MX09 FPGA, 72 User IOs, 84-Pin PLCC, Speed Grade 2, Industrial Grade; Published: 21-May-2003; LatestRevisionDate: 13-Apr-2006; LatestRevisionNote: IPC-7351 Footprint Added.; DatasheetVersion: v6.0 Jan-2004; PackageVersion: v9.2, Apr-2006; PackageReference: PL84; Publisher: Altium Limited; PackageDescription: 84-Pin Plastic Leaded Chip Carrier (PL84); Code_JEDEC: MS-018-AF; Code_IPC: PLCC-84; ComponentLink1Description: Manufacturer Link; ComponentLink1URL: http://www.actel.com/products/mx/index.html; ComponentLink2Description: Datasheet; ComponentLink2URL: http://www.actel.com/documents/MXDS.pdf
footprint PL84_N (Leaded Chip Carrier, 84-Leads, Body 29.3x29.3mm, Pitch 1.27mm, IPC Medium Density)
footprint PL84_L (Leaded Chip Carrier, 84-Leads, Body 29.3x29.3mm, Pitch 1.27mm, IPC High Density)
footprint PL84_M (Leaded Chip Carrier, 84-Leads, Body 29.3x29.3mm, Pitch 1.27mm, IPC Low Density)
3D model A42MX09-PL84 (84-Pin Plastic Leaded Chip Carrier (PL84))
pins: 1 IO (io), 2 CLKB/IO (io), 3 IO (io), 4 PRB/IO (io), 5 IO (io), 6 GND (power), 7 IO (io), 8 IO (io), 9 IO (io), 10 DCLK/IO (io), 11 IO (io), 12 MODE (in), 13 IO (io), 14 IO (io), 15 IO (io), 16 IO (io), 17 IO (io), 18 IO (io), 19 IO (io), 20 IO (io), 21 IO (io), 22 VCCA (power), 23 VCCI (power), 24 IO (io), 25 IO (io), 26 IO (io), 27 IO (io), 28 GND (power), 29 IO (io), 30 IO (io), 31 IO (io), 32 IO (io), 33 IO (io), 34 IO (io), 35 IO (io), 36 IO (io), 37 IO (io), 38 IO (io), 39 IO (io), 40 IO (io), 41 IO (io), 42 IO (io), 43 VCCA (power), 44 IO (io), 45 IO (io), 46 IO (io), 47 IO (io), 48 IO (io), 49 GND (power), 50 IO (io), 51 IO (io), 52 SDO/IO (io), 53 IO (io), 54 IO (io), 55 IO (io), 56 IO (io), 57 IO (io), 58 IO (io), 59 IO (io), 60 IO (io), 61 IO (io), 62 IO (io), 63 GND/LP (power), 64 VCCA (power), 65 VCCI (power), 66 IO (io), 67 IO (io), 68 IO (io), 69 IO (io), 70 GND (power), 71 IO (io), 72 IO (io), 73 IO (io), 74 IO (io), 75 IO (io), 76 SDI/IO (io), 77 IO (io), 78 IO (io), 79 IO (io), 80 IO (io), 81 PRA/IO (io), 82 IO (io), 83 CLKA/IO (io), 84 VCCA (power)

## A42MX09-2PL84M
designator U?
A42MX09 FPGA, 72 User IOs, 84-Pin PLCC, Speed Grade 2, Military Grade; Published: 21-May-2003; LatestRevisionDate: 13-Apr-2006; LatestRevisionNote: IPC-7351 Footprint Added.; DatasheetVersion: v6.0 Jan-2004; PackageVersion: v9.2, Apr-2006; PackageReference: PL84; Publisher: Altium Limited; PackageDescription: 84-Pin Plastic Leaded Chip Carrier (PL84); Code_JEDEC: MS-018-AF; Code_IPC: PLCC-84; ComponentLink1Description: Manufacturer Link; ComponentLink1URL: http://www.actel.com/products/mx/index.html; ComponentLink2Description: Datasheet; ComponentLink2URL: http://www.actel.com/documents/MXDS.pdf
footprint PL84_N (Leaded Chip Carrier, 84-Leads, Body 29.3x29.3mm, Pitch 1.27mm, IPC Medium Density)
footprint PL84_L (Leaded Chip Carrier, 84-Leads, Body 29.3x29.3mm, Pitch 1.27mm, IPC High Density)
footprint PL84_M (Leaded Chip Carrier, 84-Leads, Body 29.3x29.3mm, Pitch 1.27mm, IPC Low Density)
3D model A42MX09-PL84 (84-Pin Plastic Leaded Chip Carrier (PL84))
pins: 1 IO (io), 2 CLKB/IO (io), 3 IO (io), 4 PRB/IO (io), 5 IO (io), 6 GND (power), 7 IO (io), 8 IO (io), 9 IO (io), 10 DCLK/IO (io), 11 IO (io), 12 MODE (in), 13 IO (io), 14 IO (io), 15 IO (io), 16 IO (io), 17 IO (io), 18 IO (io), 19 IO (io), 20 IO (io), 21 IO (io), 22 VCCA (power), 23 VCCI (power), 24 IO (io), 25 IO (io), 26 IO (io), 27 IO (io), 28 GND (power), 29 IO (io), 30 IO (io), 31 IO (io), 32 IO (io), 33 IO (io), 34 IO (io), 35 IO (io), 36 IO (io), 37 IO (io), 38 IO (io), 39 IO (io), 40 IO (io), 41 IO (io), 42 IO (io), 43 VCCA (power), 44 IO (io), 45 IO (io), 46 IO (io), 47 IO (io), 48 IO (io), 49 GND (power), 50 IO (io), 51 IO (io), 52 SDO/IO (io), 53 IO (io), 54 IO (io), 55 IO (io), 56 IO (io), 57 IO (io), 58 IO (io), 59 IO (io), 60 IO (io), 61 IO (io), 62 IO (io), 63 GND/LP (power), 64 VCCA (power), 65 VCCI (power), 66 IO (io), 67 IO (io), 68 IO (io), 69 IO (io), 70 GND (power), 71 IO (io), 72 IO (io), 73 IO (io), 74 IO (io), 75 IO (io), 76 SDI/IO (io), 77 IO (io), 78 IO (io), 79 IO (io), 80 IO (io), 81 PRA/IO (io), 82 IO (io), 83 CLKA/IO (io), 84 VCCA (power)

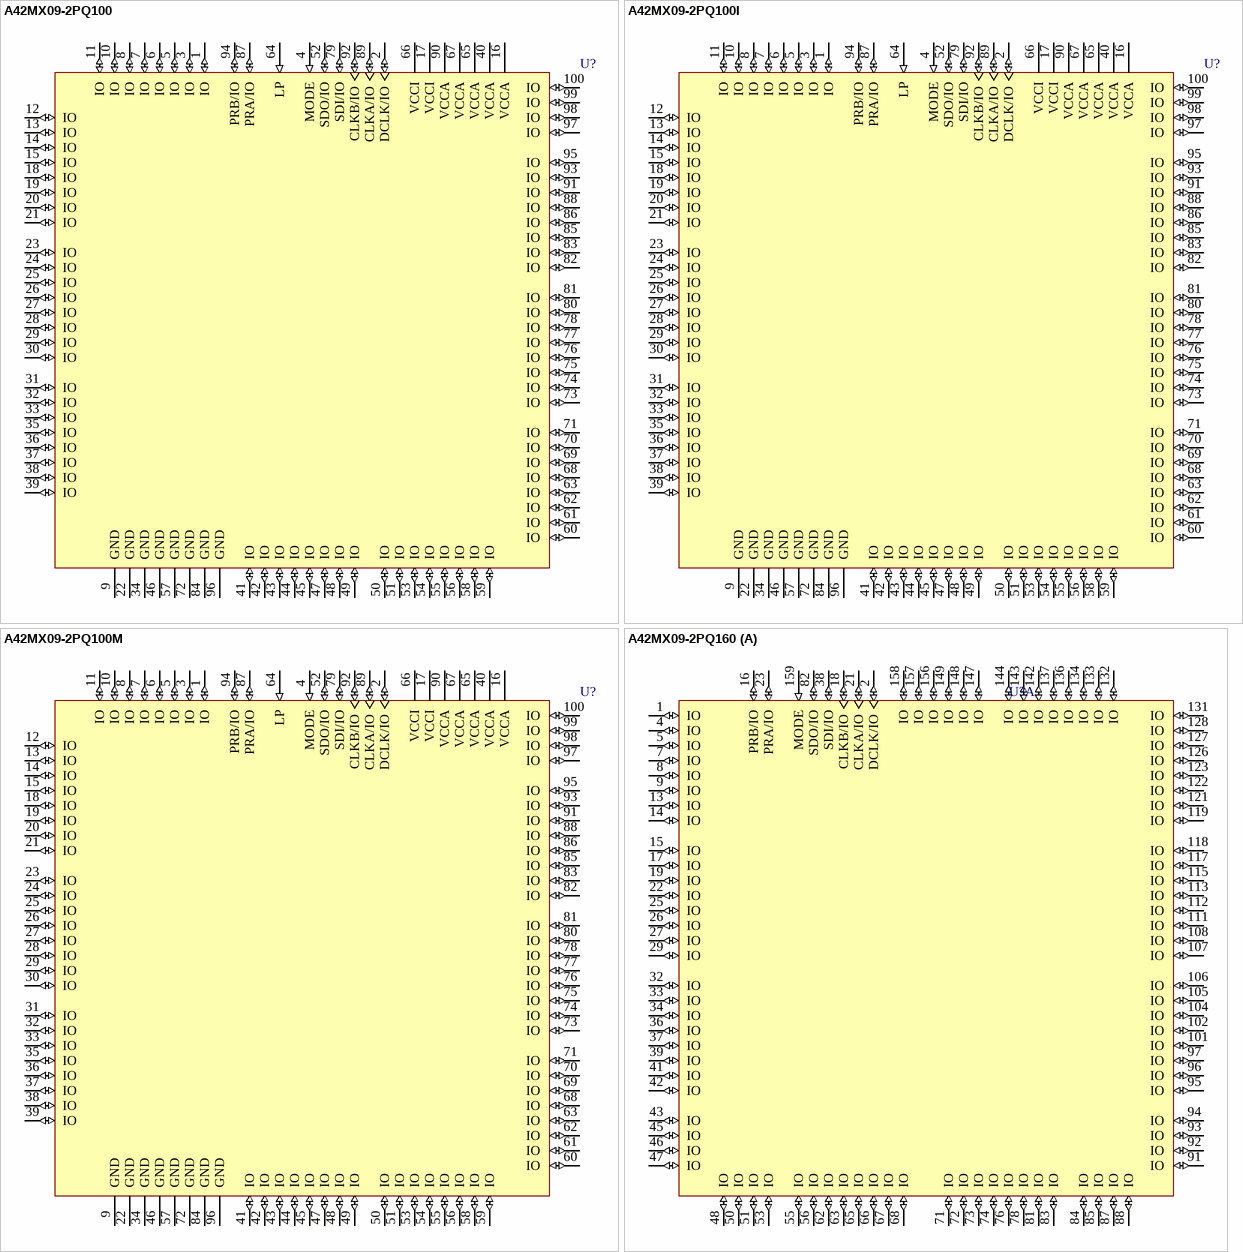
[diagram p6: symbols A42MX09-2PQ100 to A42MX09-2PQ160]

## A42MX09-2PQ100
designator U?
A42MX09 FPGA, 83 User IOs, 100-Pin PQFP, Speed Grade 2, Commercial Grade; Published: 21-May-2003; LatestRevisionDate: 13-Apr-2006; LatestRevisionNote: IPC-7351 Footprint Added.; DatasheetVersion: v6.0 Jan-2004; PackageVersion: v9.2, Apr-2006; PackageReference: PQ100; Publisher: Altium Limited; PackageDescription: 100-Pin Plastic Quad Flat Pack Rectangular Package (PQ100); Code_JEDEC: MS-022-GC-1; Code_IPC: QFP65P1720X2320-100; ComponentLink1Description: Manufacturer Link; ComponentLink1URL: http://www.actel.com/products/mx/index.html; ComponentLink2Description: Datasheet; ComponentLink2URL: http://www.actel.com/documents/MXDS.pdf
footprint PQ100_N (QFP, 100-Leads, Body 20x14mm, Pitch 0.65mm, IPC Medium Density)
footprint PQ100_L (QFP, 100-Leads, Body 20x14mm, Pitch 0.65mm, IPC High Density)
footprint PQ100_M (QFP, 100-Leads, Body 20x14mm, Pitch 0.65mm, IPC Low Density)
3D model A42MX09-PQ100 (100-Pin Plastic Quad Flat Pack Rectangular Package (PQ100))
pins: 1 IO (io), 2 DCLK/IO (io), 3 IO (io), 4 MODE (in), 5 IO (io), 6 IO (io), 7 IO (io), 8 IO (io), 9 GND (power), 10 IO (io), 11 IO (io), 12 IO (io), 13 IO (io), 14 IO (io), 15 IO (io), 16 VCCA (power), 17 VCCI (power), 18 IO (io), 19 IO (io), 20 IO (io), 21 IO (io), 22 GND (power), 23 IO (io), 24 IO (io), 25 IO (io), 26 IO (io), 27 IO (io), 28 IO (io), 29 IO (io), 30 IO (io), 31 IO (io), 32 IO (io), 33 IO (io), 34 GND (power), 35 IO (io), 36 IO (io), 37 IO (io), 38 IO (io), 39 IO (io), 40 VCCA (power), 41 IO (io), 42 IO (io), 43 IO (io), 44 IO (io), 45 IO (io), 46 GND (power), 47 IO (io), 48 IO (io), 49 IO (io), 50 IO (io), 51 IO (io), 52 SDO/IO (io), 53 IO (io), 54 IO (io), 55 IO (io), 56 IO (io), 57 GND (power), 58 IO (io), 59 IO (io), 60 IO (io), 61 IO (io), 62 IO (io), 63 IO (io), 64 LP (in), 65 VCCA (power), 66 VCCI (power), 67 VCCA (power), 68 IO (io), 69 IO (io), 70 IO (io), 71 IO (io), 72 GND (power), 73 IO (io), 74 IO (io), 75 IO (io), 76 IO (io), 77 IO (io), 78 IO (io), 79 SDI/IO (io), 80 IO (io), 81 IO (io), 82 IO (io), 83 IO (io), 84 GND (power), 85 IO (io), 86 IO (io), 87 PRA/IO (io), 88 IO (io), 89 CLKA/IO (io), 90 VCCA (power), 91 IO (io), 92 CLKB/IO (io), 93 IO (io), 94 PRB/IO (io), 95 IO (io), 96 GND (power), 97 IO (io), 98 IO (io), 99 IO (io), 100 IO (io)

## A42MX09-2PQ100I
designator U?
A42MX09 FPGA, 83 User IOs, 100-Pin PQFP, Speed Grade 2, Industrial Grade; Published: 21-May-2003; LatestRevisionDate: 13-Apr-2006; LatestRevisionNote: IPC-7351 Footprint Added.; DatasheetVersion: v6.0 Jan-2004; PackageVersion: v9.2, Apr-2006; PackageReference: PQ100; Publisher: Altium Limited; PackageDescription: 100-Pin Plastic Quad Flat Pack Rectangular Package (PQ100); Code_JEDEC: MS-022-GC-1; Code_IPC: QFP65P1720X2320-100; ComponentLink1Description: Manufacturer Link; ComponentLink1URL: http://www.actel.com/products/mx/index.html; ComponentLink2Description: Datasheet; ComponentLink2URL: http://www.actel.com/documents/MXDS.pdf
footprint PQ100_N (QFP, 100-Leads, Body 20x14mm, Pitch 0.65mm, IPC Medium Density)
footprint PQ100_L (QFP, 100-Leads, Body 20x14mm, Pitch 0.65mm, IPC High Density)
footprint PQ100_M (QFP, 100-Leads, Body 20x14mm, Pitch 0.65mm, IPC Low Density)
3D model A42MX09-PQ100 (100-Pin Plastic Quad Flat Pack Rectangular Package (PQ100))
pins: 1 IO (io), 2 DCLK/IO (io), 3 IO (io), 4 MODE (in), 5 IO (io), 6 IO (io), 7 IO (io), 8 IO (io), 9 GND (power), 10 IO (io), 11 IO (io), 12 IO (io), 13 IO (io), 14 IO (io), 15 IO (io), 16 VCCA (power), 17 VCCI (power), 18 IO (io), 19 IO (io), 20 IO (io), 21 IO (io), 22 GND (power), 23 IO (io), 24 IO (io), 25 IO (io), 26 IO (io), 27 IO (io), 28 IO (io), 29 IO (io), 30 IO (io), 31 IO (io), 32 IO (io), 33 IO (io), 34 GND (power), 35 IO (io), 36 IO (io), 37 IO (io), 38 IO (io), 39 IO (io), 40 VCCA (power), 41 IO (io), 42 IO (io), 43 IO (io), 44 IO (io), 45 IO (io), 46 GND (power), 47 IO (io), 48 IO (io), 49 IO (io), 50 IO (io), 51 IO (io), 52 SDO/IO (io), 53 IO (io), 54 IO (io), 55 IO (io), 56 IO (io), 57 GND (power), 58 IO (io), 59 IO (io), 60 IO (io), 61 IO (io), 62 IO (io), 63 IO (io), 64 LP (in), 65 VCCA (power), 66 VCCI (power), 67 VCCA (power), 68 IO (io), 69 IO (io), 70 IO (io), 71 IO (io), 72 GND (power), 73 IO (io), 74 IO (io), 75 IO (io), 76 IO (io), 77 IO (io), 78 IO (io), 79 SDI/IO (io), 80 IO (io), 81 IO (io), 82 IO (io), 83 IO (io), 84 GND (power), 85 IO (io), 86 IO (io), 87 PRA/IO (io), 88 IO (io), 89 CLKA/IO (io), 90 VCCA (power), 91 IO (io), 92 CLKB/IO (io), 93 IO (io), 94 PRB/IO (io), 95 IO (io), 96 GND (power), 97 IO (io), 98 IO (io), 99 IO (io), 100 IO (io)